# Altium integrated library Actel ProASIC PLUS.IntLib: 242 symbols (part 29 of 36)
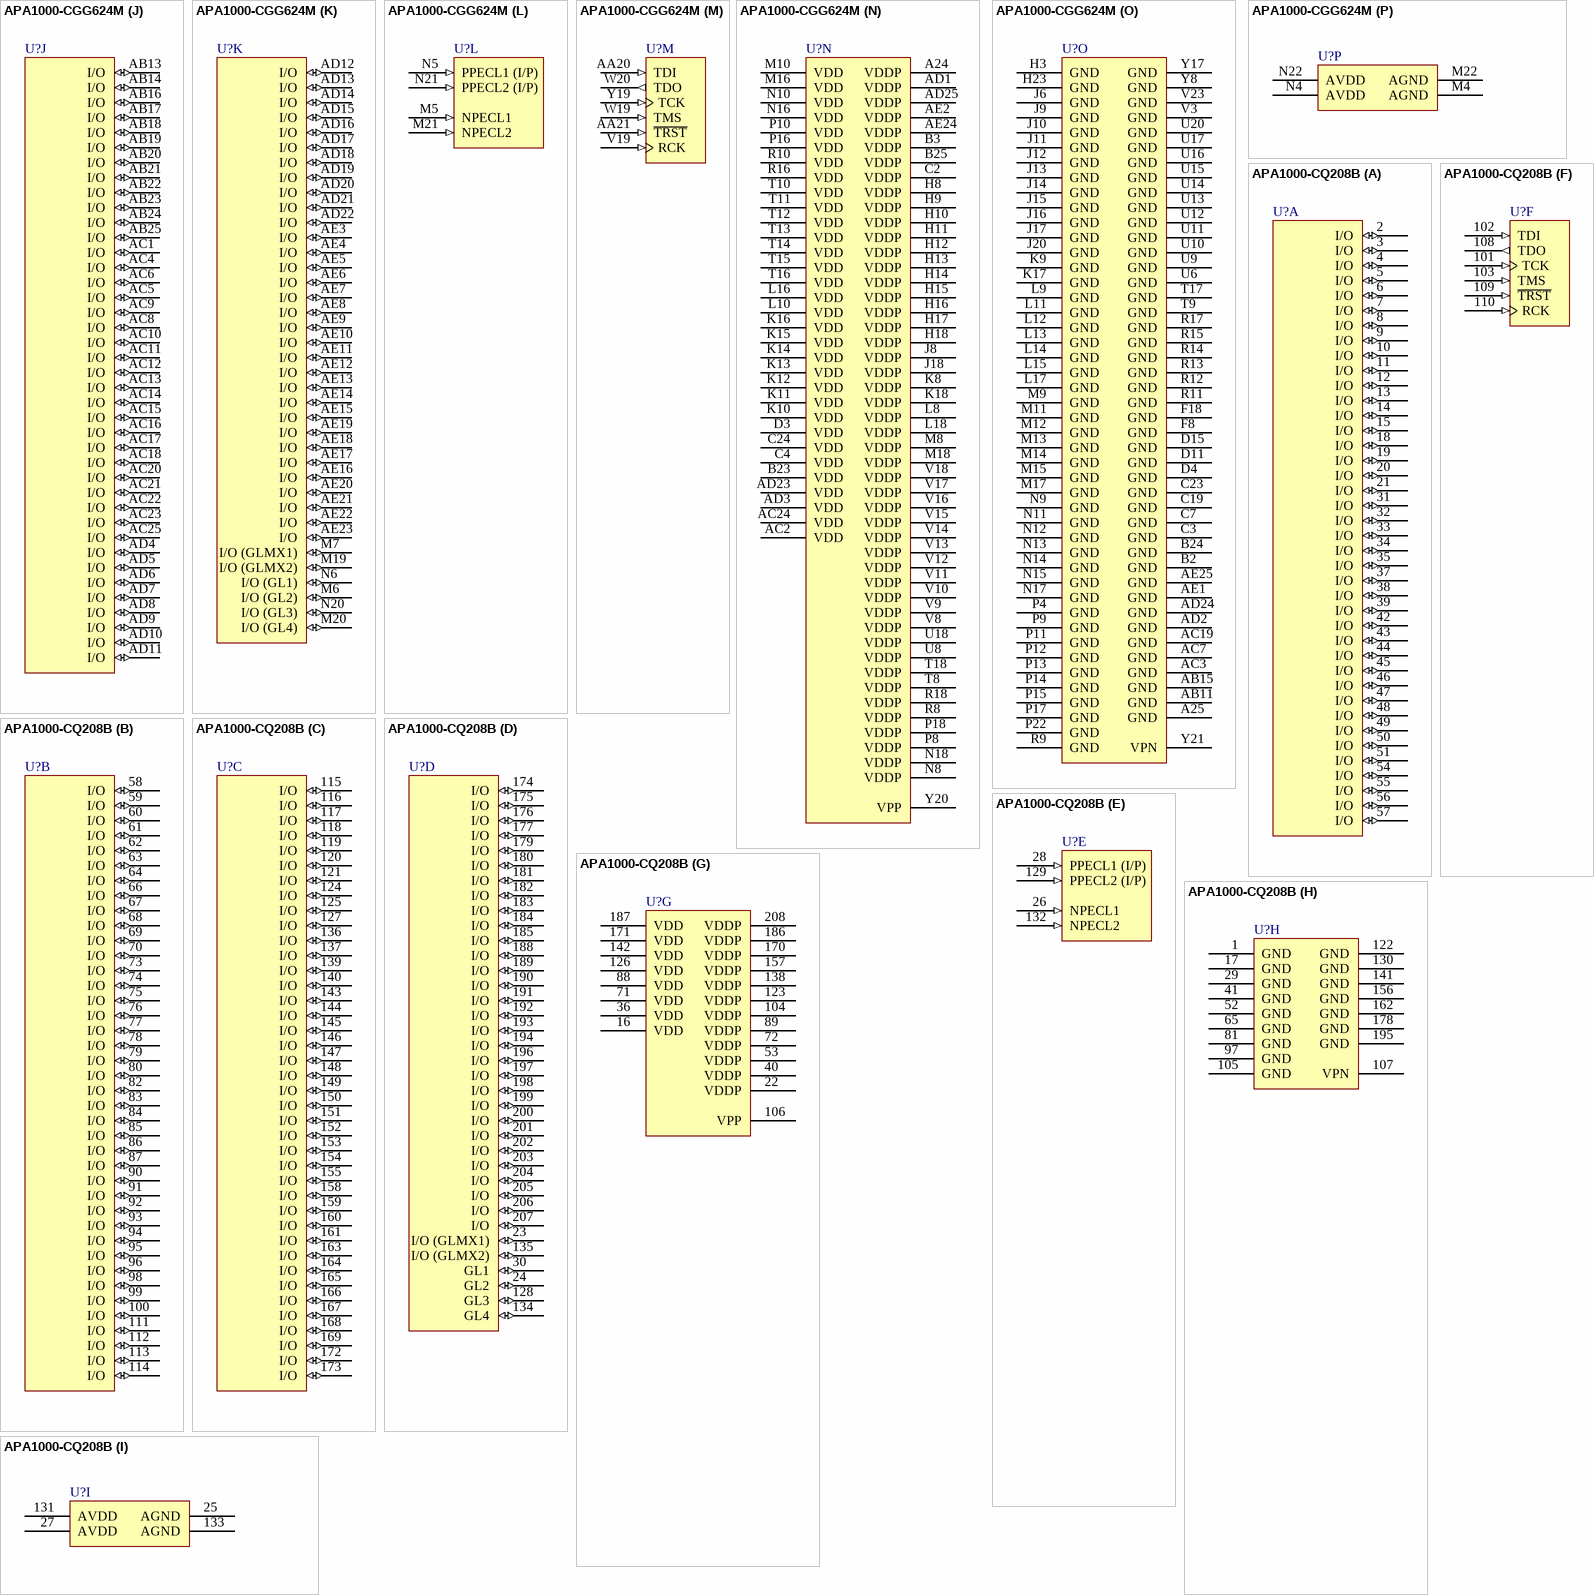
[diagram p225: symbols APA1000-CGG624M to APA1000-CQ208B]

## APA1000-CQ208B
designator U?
ProASICPlus APA1000 Flash FPGA, 158 User IOs, 208-Pin CQFP, Speed Grade Standard, Mil-Std 883 Class B; Published: 2-Mar-2006; LatestRevisionDate: 26-Feb-2010; LatestRevisionNote: Updated to datasheet version 5.9 Jan-2010.; DatasheetVersion: v5.9, Jan-2010; PackageVersion: ver11.2, Nov-2009; PackageReference: CQ208; Publisher: Altium Limited; PackageDescription: 208-Pin Ceramic Quad Flat Pack (CQFP); ComponentLink1Description: ProASIC PLUS Datasheet; ComponentLink1URL: http://www.actel.com/documents/ProASICPLUS_DS.pdf; ComponentLink2Description: Package Mechanical Drawings; ComponentLink2URL: http://www.actel.com/documents/PckgMechDrwngs.pdf; ComponentLink3Description: ProASIC PLUS Documents; ComponentLink3URL: http://www.actel.com/products/proasicplus/docs.aspx; ComponentLink4Description: Actel.com Home; ComponentLink4URL: http://www.actel.com/
footprint CQ208_N (CQFP, 208-Leads, Body 29x29mm; Pitch 0.5mm, Gullwing Leadform, IPC Medium Density)
footprint CQ208_L (CQFP, 208-Leads, Body 29x29mm; Pitch 0.5mm, Gullwing Leadform, IPC High Density)
footprint CQ208_M (CQFP, 208-Leads, Body 29x29mm; Pitch 0.5mm, Gullwing Leadform, IPC Low Density)
part A pins: 2 I/O (io), 3 I/O (io), 4 I/O (io), 5 I/O (io), 6 I/O (io), 7 I/O (io), 8 I/O (io), 9 I/O (io), 10 I/O (io), 11 I/O (io), 12 I/O (io), 13 I/O (io), 14 I/O (io), 15 I/O (io), 18 I/O (io), 19 I/O (io), 20 I/O (io), 21 I/O (io), 31 I/O (io), 32 I/O (io), 33 I/O (io), 34 I/O (io), 35 I/O (io), 37 I/O (io), 38 I/O (io), 39 I/O (io), 42 I/O (io), 43 I/O (io), 44 I/O (io), 45 I/O (io), 46 I/O (io), 47 I/O (io), 48 I/O (io), 49 I/O (io), 50 I/O (io), 51 I/O (io), 54 I/O (io), 55 I/O (io), 56 I/O (io), 57 I/O (io)
part B pins: 58 I/O (io), 59 I/O (io), 60 I/O (io), 61 I/O (io), 62 I/O (io), 63 I/O (io), 64 I/O (io), 66 I/O (io), 67 I/O (io), 68 I/O (io), 69 I/O (io), 70 I/O (io), 73 I/O (io), 74 I/O (io), 75 I/O (io), 76 I/O (io), 77 I/O (io), 78 I/O (io), 79 I/O (io), 80 I/O (io), 82 I/O (io), 83 I/O (io), 84 I/O (io), 85 I/O (io), 86 I/O (io), 87 I/O (io), 90 I/O (io), 91 I/O (io), 92 I/O (io), 93 I/O (io), 94 I/O (io), 95 I/O (io), 96 I/O (io), 98 I/O (io), 99 I/O (io), 100 I/O (io), 111 I/O (io), 112 I/O (io), 113 I/O (io), 114 I/O (io)
part C pins: 115 I/O (io), 116 I/O (io), 117 I/O (io), 118 I/O (io), 119 I/O (io), 120 I/O (io), 121 I/O (io), 124 I/O (io), 125 I/O (io), 127 I/O (io), 136 I/O (io), 137 I/O (io), 139 I/O (io), 140 I/O (io), 143 I/O (io), 144 I/O (io), 145 I/O (io), 146 I/O (io), 147 I/O (io), 148 I/O (io), 149 I/O (io), 150 I/O (io), 151 I/O (io), 152 I/O (io), 153 I/O (io), 154 I/O (io), 155 I/O (io), 158 I/O (io), 159 I/O (io), 160 I/O (io), 161 I/O (io), 163 I/O (io), 164 I/O (io), 165 I/O (io), 166 I/O (io), 167 I/O (io), 168 I/O (io), 169 I/O (io), 172 I/O (io), 173 I/O (io)
part D pins: 23 I/O (GLMX1) (io), 24 GL2 (io), 30 GL1 (io), 128 GL3 (io), 134 GL4 (io), 135 I/O (GLMX2) (io), 174 I/O (io), 175 I/O (io), 176 I/O (io), 177 I/O (io), 179 I/O (io), 180 I/O (io), 181 I/O (io), 182 I/O (io), 183 I/O (io), 184 I/O (io), 185 I/O (io), 188 I/O (io), 189 I/O (io), 190 I/O (io), 191 I/O (io), 192 I/O (io), 193 I/O (io), 194 I/O (io), 196 I/O (io), 197 I/O (io), 198 I/O (io), 199 I/O (io), 200 I/O (io), 201 I/O (io), 202 I/O (io), 203 I/O (io), 204 I/O (io), 205 I/O (io), 206 I/O (io), 207 I/O (io)
part E pins: 26 NPECL1 (in), 28 PPECL1 (I/P) (in), 129 PPECL2 (I/P) (in), 132 NPECL2 (in)
part F pins: 101 TCK (in), 102 TDI (in), 103 TMS (in), 108 TDO (out), 109 ~{TRST} (in), 110 RCK (in)
part G pins: 16 VDD (power), 22 VDDP (power), 36 VDD (power), 40 VDDP (power), 53 VDDP (power), 71 VDD (power), 72 VDDP (power), 88 VDD (power), 89 VDDP (power), 104 VDDP (power), 106 VPP (power), 123 VDDP (power), 126 VDD (power), 138 VDDP (power), 142 VDD (power), 157 VDDP (power), 170 VDDP (power), 171 VDD (power), 186 VDDP (power), 187 VDD (power), 208 VDDP (power)
part H pins: 1 GND (power), 17 GND (power), 29 GND (power), 41 GND (power), 52 GND (power), 65 GND (power), 81 GND (power), 97 GND (power), 105 GND (power), 107 VPN (power), 122 GND (power), 130 GND (power), 141 GND (power), 156 GND (power), 162 GND (power), 178 GND (power), 195 GND (power)
part I pins: 25 AGND (power), 27 AVDD (power), 131 AVDD (power), 133 AGND (power)

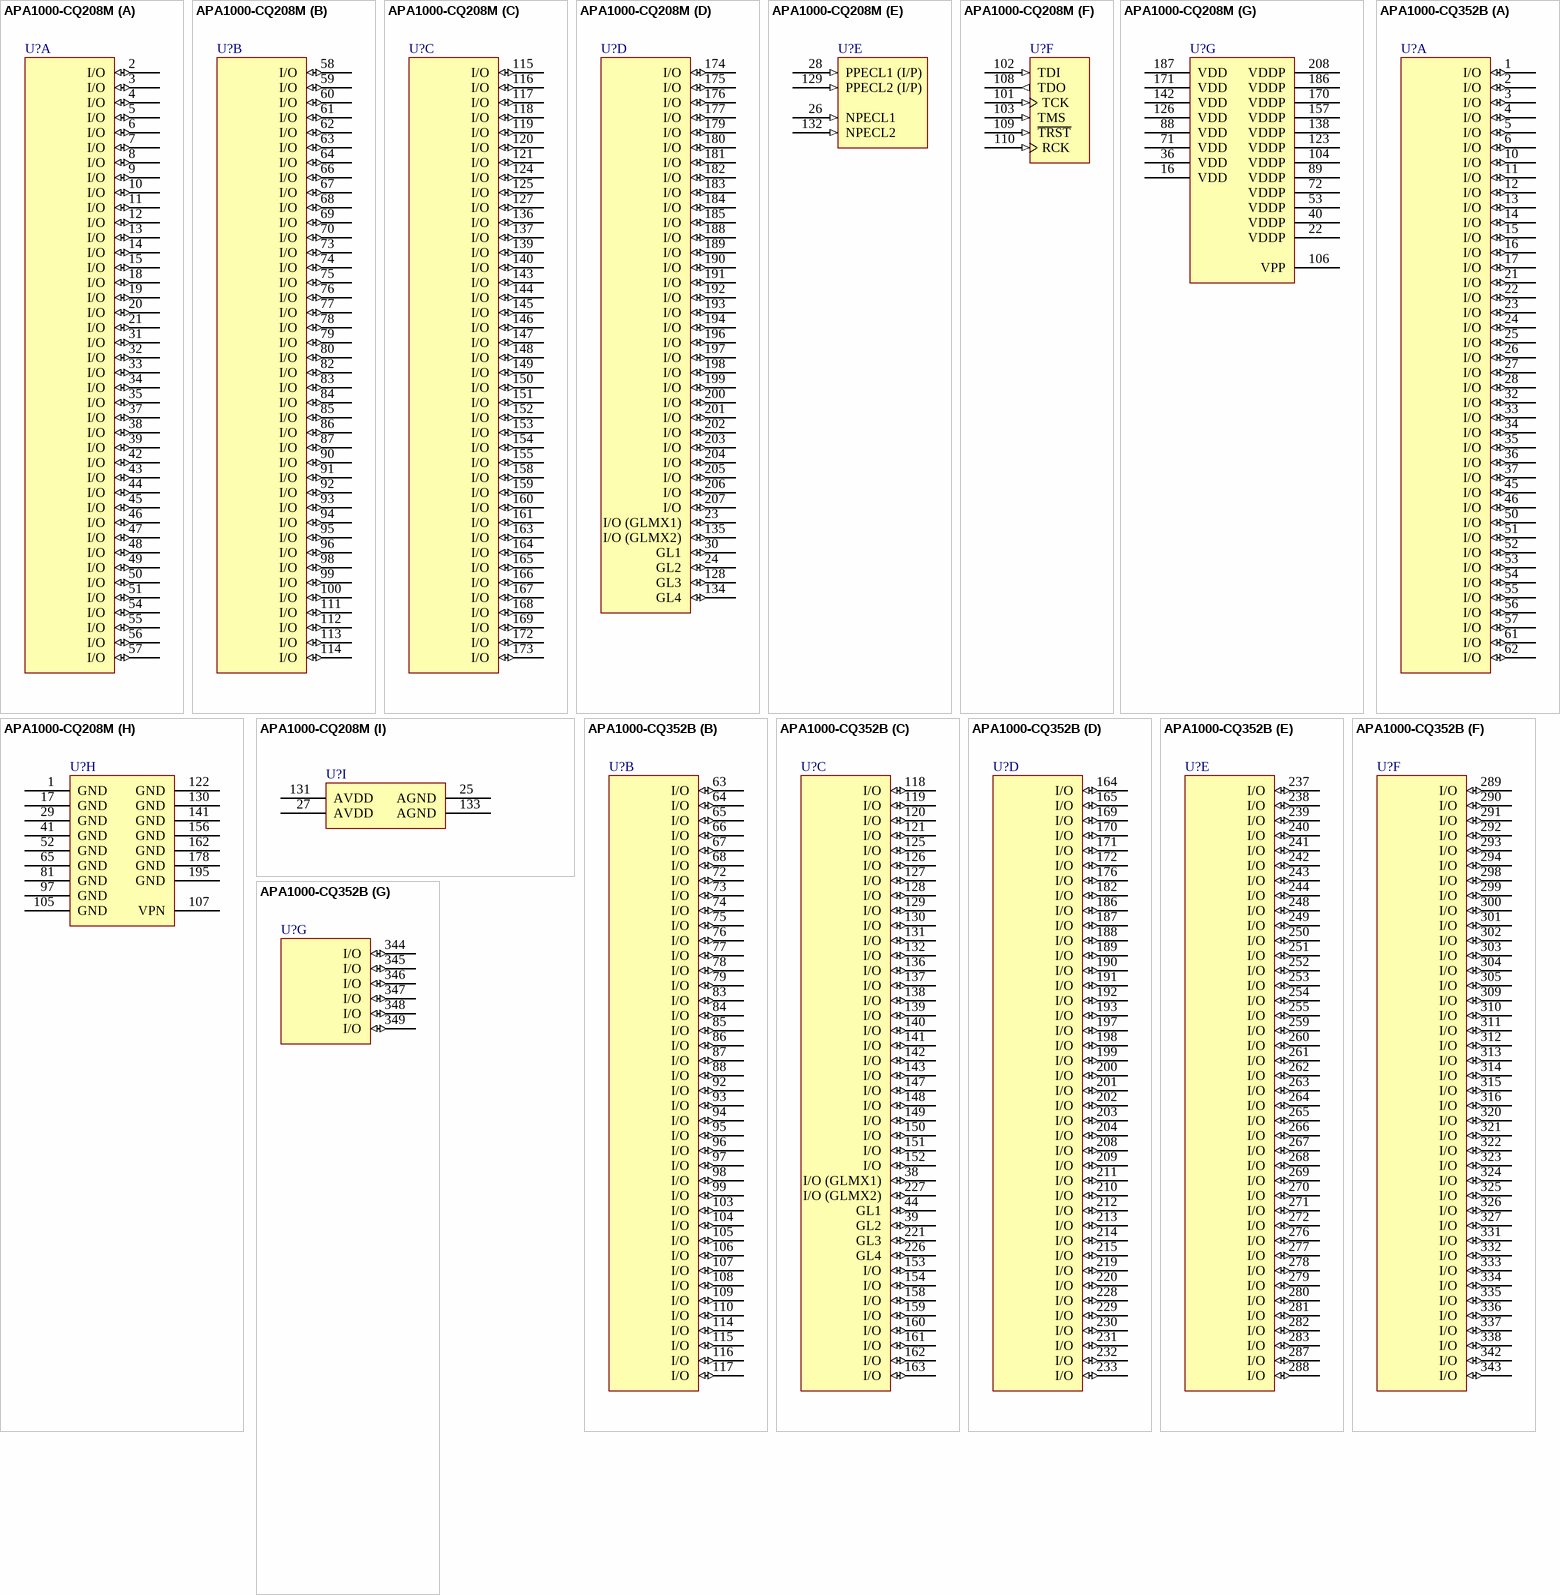
[diagram p159: symbols APA1000-CQ208M to APA1000-CQ352B]

## APA1000-CQ208M
designator U?
ProASICPlus APA1000 Flash FPGA, 158 User IOs, 208-Pin CQFP, Speed Grade Standard, Military Grade; Published: 11-Oct-2004; LatestRevisionDate: 26-Feb-2010; LatestRevisionNote: Updated to datasheet version 5.9 Jan-2010.; DatasheetVersion: v5.9, Jan-2010; PackageVersion: ver11.2, Nov-2009; PackageReference: CQ208; Publisher: Altium Limited; PackageDescription: 208-Pin Ceramic Quad Flat Pack (CQFP); ComponentLink1Description: ProASIC PLUS Datasheet; ComponentLink1URL: http://www.actel.com/documents/ProASICPLUS_DS.pdf; ComponentLink2Description: Package Mechanical Drawings; ComponentLink2URL: http://www.actel.com/documents/PckgMechDrwngs.pdf; ComponentLink3Description: ProASIC PLUS Documents; ComponentLink3URL: http://www.actel.com/products/proasicplus/docs.aspx; ComponentLink4Description: Actel.com Home; ComponentLink4URL: http://www.actel.com/
footprint CQ208_N (CQFP, 208-Leads, Body 29x29mm; Pitch 0.5mm, Gullwing Leadform, IPC Medium Density)
footprint CQ208_L (CQFP, 208-Leads, Body 29x29mm; Pitch 0.5mm, Gullwing Leadform, IPC High Density)
footprint CQ208_M (CQFP, 208-Leads, Body 29x29mm; Pitch 0.5mm, Gullwing Leadform, IPC Low Density)
part A pins: 2 I/O (io), 3 I/O (io), 4 I/O (io), 5 I/O (io), 6 I/O (io), 7 I/O (io), 8 I/O (io), 9 I/O (io), 10 I/O (io), 11 I/O (io), 12 I/O (io), 13 I/O (io), 14 I/O (io), 15 I/O (io), 18 I/O (io), 19 I/O (io), 20 I/O (io), 21 I/O (io), 31 I/O (io), 32 I/O (io), 33 I/O (io), 34 I/O (io), 35 I/O (io), 37 I/O (io), 38 I/O (io), 39 I/O (io), 42 I/O (io), 43 I/O (io), 44 I/O (io), 45 I/O (io), 46 I/O (io), 47 I/O (io), 48 I/O (io), 49 I/O (io), 50 I/O (io), 51 I/O (io), 54 I/O (io), 55 I/O (io), 56 I/O (io), 57 I/O (io)
part B pins: 58 I/O (io), 59 I/O (io), 60 I/O (io), 61 I/O (io), 62 I/O (io), 63 I/O (io), 64 I/O (io), 66 I/O (io), 67 I/O (io), 68 I/O (io), 69 I/O (io), 70 I/O (io), 73 I/O (io), 74 I/O (io), 75 I/O (io), 76 I/O (io), 77 I/O (io), 78 I/O (io), 79 I/O (io), 80 I/O (io), 82 I/O (io), 83 I/O (io), 84 I/O (io), 85 I/O (io), 86 I/O (io), 87 I/O (io), 90 I/O (io), 91 I/O (io), 92 I/O (io), 93 I/O (io), 94 I/O (io), 95 I/O (io), 96 I/O (io), 98 I/O (io), 99 I/O (io), 100 I/O (io), 111 I/O (io), 112 I/O (io), 113 I/O (io), 114 I/O (io)
part C pins: 115 I/O (io), 116 I/O (io), 117 I/O (io), 118 I/O (io), 119 I/O (io), 120 I/O (io), 121 I/O (io), 124 I/O (io), 125 I/O (io), 127 I/O (io), 136 I/O (io), 137 I/O (io), 139 I/O (io), 140 I/O (io), 143 I/O (io), 144 I/O (io), 145 I/O (io), 146 I/O (io), 147 I/O (io), 148 I/O (io), 149 I/O (io), 150 I/O (io), 151 I/O (io), 152 I/O (io), 153 I/O (io), 154 I/O (io), 155 I/O (io), 158 I/O (io), 159 I/O (io), 160 I/O (io), 161 I/O (io), 163 I/O (io), 164 I/O (io), 165 I/O (io), 166 I/O (io), 167 I/O (io), 168 I/O (io), 169 I/O (io), 172 I/O (io), 173 I/O (io)
part D pins: 23 I/O (GLMX1) (io), 24 GL2 (io), 30 GL1 (io), 128 GL3 (io), 134 GL4 (io), 135 I/O (GLMX2) (io), 174 I/O (io), 175 I/O (io), 176 I/O (io), 177 I/O (io), 179 I/O (io), 180 I/O (io), 181 I/O (io), 182 I/O (io), 183 I/O (io), 184 I/O (io), 185 I/O (io), 188 I/O (io), 189 I/O (io), 190 I/O (io), 191 I/O (io), 192 I/O (io), 193 I/O (io), 194 I/O (io), 196 I/O (io), 197 I/O (io), 198 I/O (io), 199 I/O (io), 200 I/O (io), 201 I/O (io), 202 I/O (io), 203 I/O (io), 204 I/O (io), 205 I/O (io), 206 I/O (io), 207 I/O (io)
part E pins: 26 NPECL1 (in), 28 PPECL1 (I/P) (in), 129 PPECL2 (I/P) (in), 132 NPECL2 (in)
part F pins: 101 TCK (in), 102 TDI (in), 103 TMS (in), 108 TDO (out), 109 ~{TRST} (in), 110 RCK (in)
part G pins: 16 VDD (power), 22 VDDP (power), 36 VDD (power), 40 VDDP (power), 53 VDDP (power), 71 VDD (power), 72 VDDP (power), 88 VDD (power), 89 VDDP (power), 104 VDDP (power), 106 VPP (power), 123 VDDP (power), 126 VDD (power), 138 VDDP (power), 142 VDD (power), 157 VDDP (power), 170 VDDP (power), 171 VDD (power), 186 VDDP (power), 187 VDD (power), 208 VDDP (power)
part H pins: 1 GND (power), 17 GND (power), 29 GND (power), 41 GND (power), 52 GND (power), 65 GND (power), 81 GND (power), 97 GND (power), 105 GND (power), 107 VPN (power), 122 GND (power), 130 GND (power), 141 GND (power), 156 GND (power), 162 GND (power), 178 GND (power), 195 GND (power)
part I pins: 25 AGND (power), 27 AVDD (power), 131 AVDD (power), 133 AGND (power)

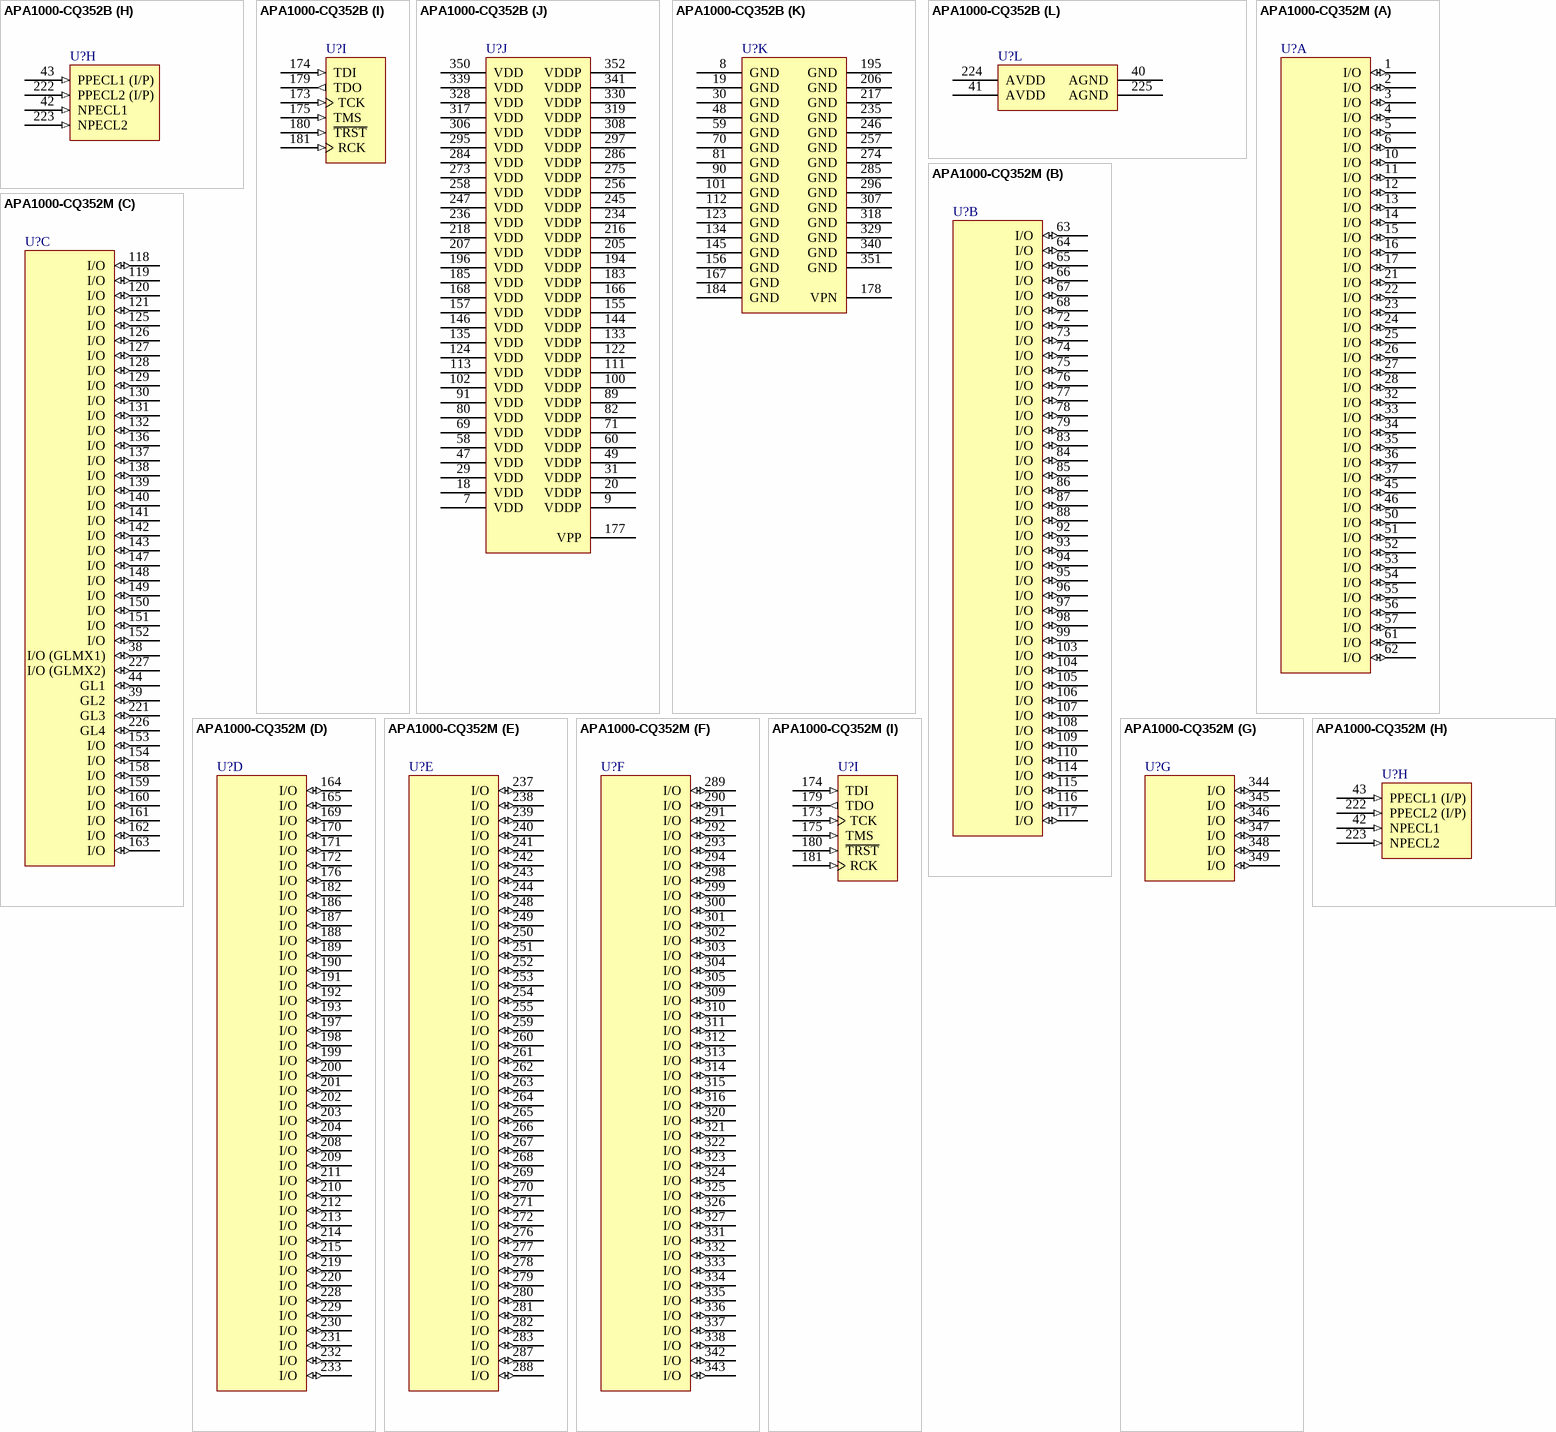
[diagram p160: symbols APA1000-CQ352B to APA1000-CQ352M]

## APA1000-CQ352B
designator U?
ProASICPlus APA1000 Flash FPGA, 248 User IOs, 352-Pin CQFP, Speed Grade Standard, Mil-Std 883 Class B; Published: 2-Mar-2006; LatestRevisionDate: 26-Feb-2010; LatestRevisionNote: Updated to datasheet version 5.9 Jan-2010.; DatasheetVersion: v5.9, Jan-2010; PackageVersion: ver11.2, Nov-2009; PackageReference: CQ352; Publisher: Altium Limited; PackageDescription: 352-Pin Ceramic Quad Flat Pack (CQFP), Cavity Up without Heat Sink; Code_JEDEC: MO-134-AE; ComponentLink1Description: ProASIC PLUS Datasheet; ComponentLink1URL: http://www.actel.com/documents/ProASICPLUS_DS.pdf; ComponentLink2Description: Package Mechanical Drawings; ComponentLink2URL: http://www.actel.com/documents/PckgMechDrwngs.pdf; ComponentLink3Description: ProASIC PLUS Documents; ComponentLink3URL: http://www.actel.com/products/proasicplus/docs.aspx; ComponentLink4Description: Actel.com Home; ComponentLink4URL: http://www.actel.com/
footprint CQ352_N (CQFP, 352-Leads, Body 48x48mm; Pitch 0.5mm, Gullwing Leadform, IPC Medium Density)
footprint CQ352_L (CQFP, 352-Leads, Body 48x48mm; Pitch 0.5mm, Gullwing Leadform, IPC High Density)
footprint CQ352_M (CQFP, 352-Leads, Body 48x48mm; Pitch 0.5mm, Gullwing Leadform, IPC Low Density)
part A pins: 1 I/O (io), 2 I/O (io), 3 I/O (io), 4 I/O (io), 5 I/O (io), 6 I/O (io), 10 I/O (io), 11 I/O (io), 12 I/O (io), 13 I/O (io), 14 I/O (io), 15 I/O (io), 16 I/O (io), 17 I/O (io), 21 I/O (io), 22 I/O (io), 23 I/O (io), 24 I/O (io), 25 I/O (io), 26 I/O (io), 27 I/O (io), 28 I/O (io), 32 I/O (io), 33 I/O (io), 34 I/O (io), 35 I/O (io), 36 I/O (io), 37 I/O (io), 45 I/O (io), 46 I/O (io), 50 I/O (io), 51 I/O (io), 52 I/O (io), 53 I/O (io), 54 I/O (io), 55 I/O (io), 56 I/O (io), 57 I/O (io), 61 I/O (io), 62 I/O (io)
part B pins: 63 I/O (io), 64 I/O (io), 65 I/O (io), 66 I/O (io), 67 I/O (io), 68 I/O (io), 72 I/O (io), 73 I/O (io), 74 I/O (io), 75 I/O (io), 76 I/O (io), 77 I/O (io), 78 I/O (io), 79 I/O (io), 83 I/O (io), 84 I/O (io), 85 I/O (io), 86 I/O (io), 87 I/O (io), 88 I/O (io), 92 I/O (io), 93 I/O (io), 94 I/O (io), 95 I/O (io), 96 I/O (io), 97 I/O (io), 98 I/O (io), 99 I/O (io), 103 I/O (io), 104 I/O (io), 105 I/O (io), 106 I/O (io), 107 I/O (io), 108 I/O (io), 109 I/O (io), 110 I/O (io), 114 I/O (io), 115 I/O (io), 116 I/O (io), 117 I/O (io)
part C pins: 38 I/O (GLMX1) (io), 39 GL2 (io), 44 GL1 (io), 118 I/O (io), 119 I/O (io), 120 I/O (io), 121 I/O (io), 125 I/O (io), 126 I/O (io), 127 I/O (io), 128 I/O (io), 129 I/O (io), 130 I/O (io), 131 I/O (io), 132 I/O (io), 136 I/O (io), 137 I/O (io), 138 I/O (io), 139 I/O (io), 140 I/O (io), 141 I/O (io), 142 I/O (io), 143 I/O (io), 147 I/O (io), 148 I/O (io), 149 I/O (io), 150 I/O (io), 151 I/O (io), 152 I/O (io), 153 I/O (io), 154 I/O (io), 158 I/O (io), 159 I/O (io), 160 I/O (io), 161 I/O (io), 162 I/O (io), 163 I/O (io), 221 GL3 (io), 226 GL4 (io), 227 I/O (GLMX2) (io)
part D pins: 164 I/O (io), 165 I/O (io), 169 I/O (io), 170 I/O (io), 171 I/O (io), 172 I/O (io), 176 I/O (io), 182 I/O (io), 186 I/O (io), 187 I/O (io), 188 I/O (io), 189 I/O (io), 190 I/O (io), 191 I/O (io), 192 I/O (io), 193 I/O (io), 197 I/O (io), 198 I/O (io), 199 I/O (io), 200 I/O (io), 201 I/O (io), 202 I/O (io), 203 I/O (io), 204 I/O (io), 208 I/O (io), 209 I/O (io), 210 I/O (io), 211 I/O (io), 212 I/O (io), 213 I/O (io), 214 I/O (io), 215 I/O (io), 219 I/O (io), 220 I/O (io), 228 I/O (io), 229 I/O (io), 230 I/O (io), 231 I/O (io), 232 I/O (io), 233 I/O (io)
part E pins: 237 I/O (io), 238 I/O (io), 239 I/O (io), 240 I/O (io), 241 I/O (io), 242 I/O (io), 243 I/O (io), 244 I/O (io), 248 I/O (io), 249 I/O (io), 250 I/O (io), 251 I/O (io), 252 I/O (io), 253 I/O (io), 254 I/O (io), 255 I/O (io), 259 I/O (io), 260 I/O (io), 261 I/O (io), 262 I/O (io), 263 I/O (io), 264 I/O (io), 265 I/O (io), 266 I/O (io), 267 I/O (io), 268 I/O (io), 269 I/O (io), 270 I/O (io), 271 I/O (io), 272 I/O (io), 276 I/O (io), 277 I/O (io), 278 I/O (io), 279 I/O (io), 280 I/O (io), 281 I/O (io), 282 I/O (io), 283 I/O (io), 287 I/O (io), 288 I/O (io)
part F pins: 289 I/O (io), 290 I/O (io), 291 I/O (io), 292 I/O (io), 293 I/O (io), 294 I/O (io), 298 I/O (io), 299 I/O (io), 300 I/O (io), 301 I/O (io), 302 I/O (io), 303 I/O (io), 304 I/O (io), 305 I/O (io), 309 I/O (io), 310 I/O (io), 311 I/O (io), 312 I/O (io), 313 I/O (io), 314 I/O (io), 315 I/O (io), 316 I/O (io), 320 I/O (io), 321 I/O (io), 322 I/O (io), 323 I/O (io), 324 I/O (io), 325 I/O (io), 326 I/O (io), 327 I/O (io), 331 I/O (io), 332 I/O (io), 333 I/O (io), 334 I/O (io), 335 I/O (io), 336 I/O (io), 337 I/O (io), 338 I/O (io), 342 I/O (io), 343 I/O (io)
part G pins: 344 I/O (io), 345 I/O (io), 346 I/O (io), 347 I/O (io), 348 I/O (io), 349 I/O (io)
part H pins: 42 NPECL1 (in), 43 PPECL1 (I/P) (in), 222 PPECL2 (I/P) (in), 223 NPECL2 (in)
part I pins: 173 TCK (in), 174 TDI (in), 175 TMS (in), 179 TDO (out), 180 ~{TRST} (in), 181 RCK (in)
part J pins: 7 VDD (power), 9 VDDP (power), 18 VDD (power), 20 VDDP (power), 29 VDD (power), 31 VDDP (power), 47 VDD (power), 49 VDDP (power), 58 VDD (power), 60 VDDP (power), 69 VDD (power), 71 VDDP (power), 80 VDD (power), 82 VDDP (power), 89 VDDP (power), 91 VDD (power), 100 VDDP (power), 102 VDD (power), 111 VDDP (power), 113 VDD (power), 122 VDDP (power), 124 VDD (power), 133 VDDP (power), 135 VDD (power), 144 VDDP (power), 146 VDD (power), 155 VDDP (power), 157 VDD (power), 166 VDDP (power), 168 VDD (power), 177 VPP (power), 183 VDDP (power), 185 VDD (power), 194 VDDP (power), 196 VDD (power), 205 VDDP (power), 207 VDD (power), 216 VDDP (power), 218 VDD (power), 234 VDDP (power), 236 VDD (power), 245 VDDP (power), 247 VDD (power), 256 VDDP (power), 258 VDD (power), 273 VDD (power), 275 VDDP (power), 284 VDD (power), 286 VDDP (power), 295 VDD (power), 297 VDDP (power), 306 VDD (power), 308 VDDP (power), 317 VDD (power), 319 VDDP (power), 328 VDD (power), 330 VDDP (power), 339 VDD (power), 341 VDDP (power), 350 VDD (power), 352 VDDP (power)
part K pins: 8 GND (power), 19 GND (power), 30 GND (power), 48 GND (power), 59 GND (power), 70 GND (power), 81 GND (power), 90 GND (power), 101 GND (power), 112 GND (power), 123 GND (power), 134 GND (power), 145 GND (power), 156 GND (power), 167 GND (power), 178 VPN (power), 184 GND (power), 195 GND (power), 206 GND (power), 217 GND (power), 235 GND (power), 246 GND (power), 257 GND (power), 274 GND (power), 285 GND (power), 296 GND (power), 307 GND (power), 318 GND (power), 329 GND (power), 340 GND (power), 351 GND (power)
part L pins: 40 AGND (power), 41 AVDD (power), 224 AVDD (power), 225 AGND (power)

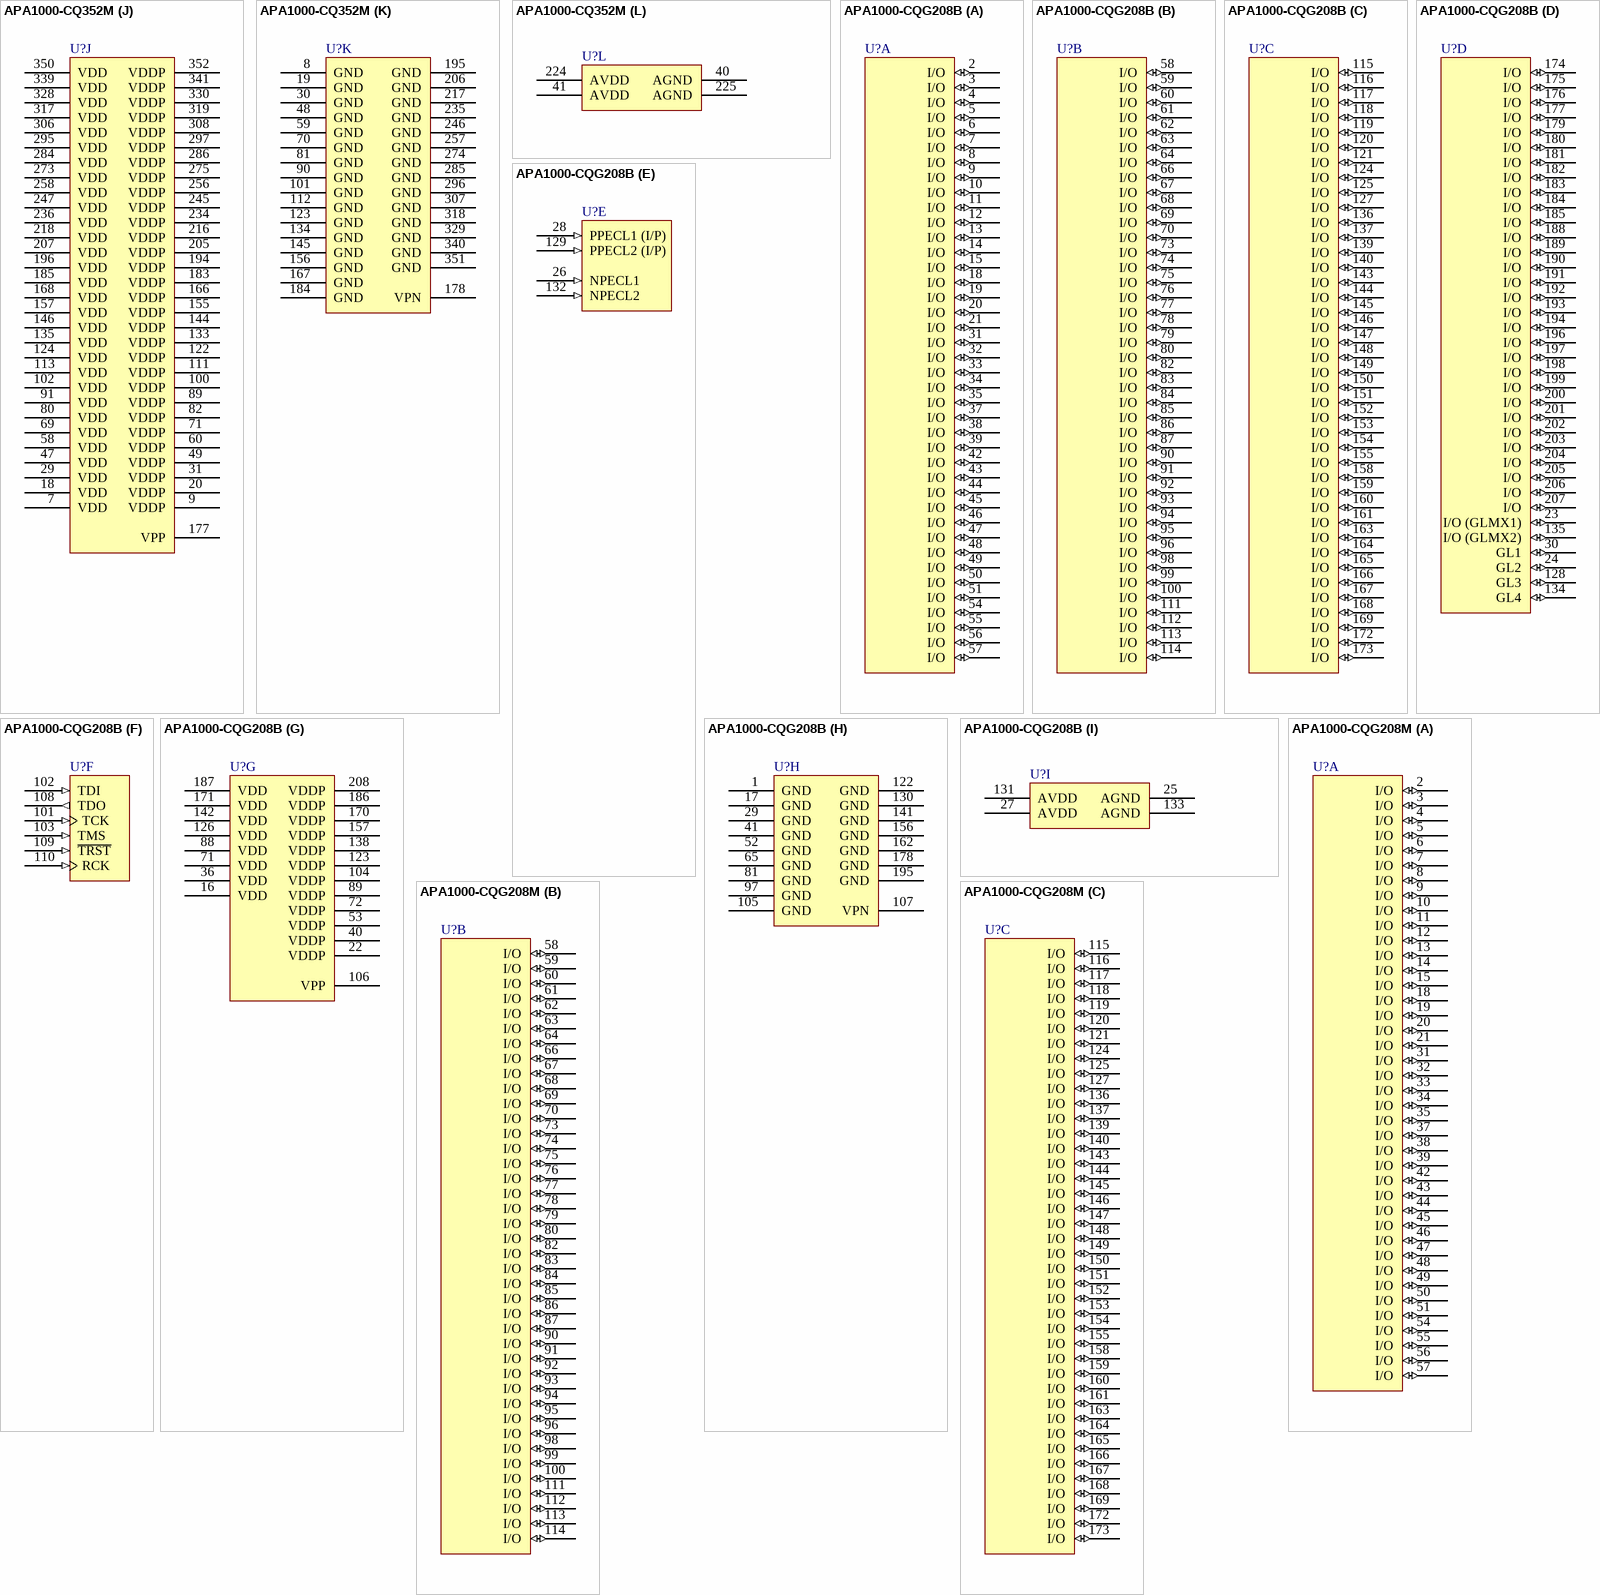
[diagram p161: symbols APA1000-CQ352M to APA1000-CQG208M]

## APA1000-CQ352M
designator U?
ProASICPlus APA1000 Flash FPGA, 248 User IOs, 352-Pin CQFP, Speed Grade Standard, Military Grade; Published: 11-Oct-2004; LatestRevisionDate: 26-Feb-2010; LatestRevisionNote: Updated to datasheet version 5.9 Jan-2010.; DatasheetVersion: v5.9, Jan-2010; PackageVersion: ver11.2, Nov-2009; PackageReference: CQ352; Publisher: Altium Limited; PackageDescription: 352-Pin Ceramic Quad Flat Pack (CQFP), Cavity Up without Heat Sink; Code_JEDEC: MO-134-AE; ComponentLink1Description: ProASIC PLUS Datasheet; ComponentLink1URL: http://www.actel.com/documents/ProASICPLUS_DS.pdf; ComponentLink2Description: Package Mechanical Drawings; ComponentLink2URL: http://www.actel.com/documents/PckgMechDrwngs.pdf; ComponentLink3Description: ProASIC PLUS Documents; ComponentLink3URL: http://www.actel.com/products/proasicplus/docs.aspx; ComponentLink4Description: Actel.com Home; ComponentLink4URL: http://www.actel.com/
footprint CQ352_N (CQFP, 352-Leads, Body 48x48mm; Pitch 0.5mm, Gullwing Leadform, IPC Medium Density)
footprint CQ352_L (CQFP, 352-Leads, Body 48x48mm; Pitch 0.5mm, Gullwing Leadform, IPC High Density)
footprint CQ352_M (CQFP, 352-Leads, Body 48x48mm; Pitch 0.5mm, Gullwing Leadform, IPC Low Density)
part A pins: 1 I/O (io), 2 I/O (io), 3 I/O (io), 4 I/O (io), 5 I/O (io), 6 I/O (io), 10 I/O (io), 11 I/O (io), 12 I/O (io), 13 I/O (io), 14 I/O (io), 15 I/O (io), 16 I/O (io), 17 I/O (io), 21 I/O (io), 22 I/O (io), 23 I/O (io), 24 I/O (io), 25 I/O (io), 26 I/O (io), 27 I/O (io), 28 I/O (io), 32 I/O (io), 33 I/O (io), 34 I/O (io), 35 I/O (io), 36 I/O (io), 37 I/O (io), 45 I/O (io), 46 I/O (io), 50 I/O (io), 51 I/O (io), 52 I/O (io), 53 I/O (io), 54 I/O (io), 55 I/O (io), 56 I/O (io), 57 I/O (io), 61 I/O (io), 62 I/O (io)
part B pins: 63 I/O (io), 64 I/O (io), 65 I/O (io), 66 I/O (io), 67 I/O (io), 68 I/O (io), 72 I/O (io), 73 I/O (io), 74 I/O (io), 75 I/O (io), 76 I/O (io), 77 I/O (io), 78 I/O (io), 79 I/O (io), 83 I/O (io), 84 I/O (io), 85 I/O (io), 86 I/O (io), 87 I/O (io), 88 I/O (io), 92 I/O (io), 93 I/O (io), 94 I/O (io), 95 I/O (io), 96 I/O (io), 97 I/O (io), 98 I/O (io), 99 I/O (io), 103 I/O (io), 104 I/O (io), 105 I/O (io), 106 I/O (io), 107 I/O (io), 108 I/O (io), 109 I/O (io), 110 I/O (io), 114 I/O (io), 115 I/O (io), 116 I/O (io), 117 I/O (io)
part C pins: 38 I/O (GLMX1) (io), 39 GL2 (io), 44 GL1 (io), 118 I/O (io), 119 I/O (io), 120 I/O (io), 121 I/O (io), 125 I/O (io), 126 I/O (io), 127 I/O (io), 128 I/O (io), 129 I/O (io), 130 I/O (io), 131 I/O (io), 132 I/O (io), 136 I/O (io), 137 I/O (io), 138 I/O (io), 139 I/O (io), 140 I/O (io), 141 I/O (io), 142 I/O (io), 143 I/O (io), 147 I/O (io), 148 I/O (io), 149 I/O (io), 150 I/O (io), 151 I/O (io), 152 I/O (io), 153 I/O (io), 154 I/O (io), 158 I/O (io), 159 I/O (io), 160 I/O (io), 161 I/O (io), 162 I/O (io), 163 I/O (io), 221 GL3 (io), 226 GL4 (io), 227 I/O (GLMX2) (io)
part D pins: 164 I/O (io), 165 I/O (io), 169 I/O (io), 170 I/O (io), 171 I/O (io), 172 I/O (io), 176 I/O (io), 182 I/O (io), 186 I/O (io), 187 I/O (io), 188 I/O (io), 189 I/O (io), 190 I/O (io), 191 I/O (io), 192 I/O (io), 193 I/O (io), 197 I/O (io), 198 I/O (io), 199 I/O (io), 200 I/O (io), 201 I/O (io), 202 I/O (io), 203 I/O (io), 204 I/O (io), 208 I/O (io), 209 I/O (io), 210 I/O (io), 211 I/O (io), 212 I/O (io), 213 I/O (io), 214 I/O (io), 215 I/O (io), 219 I/O (io), 220 I/O (io), 228 I/O (io), 229 I/O (io), 230 I/O (io), 231 I/O (io), 232 I/O (io), 233 I/O (io)
part E pins: 237 I/O (io), 238 I/O (io), 239 I/O (io), 240 I/O (io), 241 I/O (io), 242 I/O (io), 243 I/O (io), 244 I/O (io), 248 I/O (io), 249 I/O (io), 250 I/O (io), 251 I/O (io), 252 I/O (io), 253 I/O (io), 254 I/O (io), 255 I/O (io), 259 I/O (io), 260 I/O (io), 261 I/O (io), 262 I/O (io), 263 I/O (io), 264 I/O (io), 265 I/O (io), 266 I/O (io), 267 I/O (io), 268 I/O (io), 269 I/O (io), 270 I/O (io), 271 I/O (io), 272 I/O (io), 276 I/O (io), 277 I/O (io), 278 I/O (io), 279 I/O (io), 280 I/O (io), 281 I/O (io), 282 I/O (io), 283 I/O (io), 287 I/O (io), 288 I/O (io)
part F pins: 289 I/O (io), 290 I/O (io), 291 I/O (io), 292 I/O (io), 293 I/O (io), 294 I/O (io), 298 I/O (io), 299 I/O (io), 300 I/O (io), 301 I/O (io), 302 I/O (io), 303 I/O (io), 304 I/O (io), 305 I/O (io), 309 I/O (io), 310 I/O (io), 311 I/O (io), 312 I/O (io), 313 I/O (io), 314 I/O (io), 315 I/O (io), 316 I/O (io), 320 I/O (io), 321 I/O (io), 322 I/O (io), 323 I/O (io), 324 I/O (io), 325 I/O (io), 326 I/O (io), 327 I/O (io), 331 I/O (io), 332 I/O (io), 333 I/O (io), 334 I/O (io), 335 I/O (io), 336 I/O (io), 337 I/O (io), 338 I/O (io), 342 I/O (io), 343 I/O (io)
part G pins: 344 I/O (io), 345 I/O (io), 346 I/O (io), 347 I/O (io), 348 I/O (io), 349 I/O (io)
part H pins: 42 NPECL1 (in), 43 PPECL1 (I/P) (in), 222 PPECL2 (I/P) (in), 223 NPECL2 (in)
part I pins: 173 TCK (in), 174 TDI (in), 175 TMS (in), 179 TDO (out), 180 ~{TRST} (in), 181 RCK (in)
part J pins: 7 VDD (power), 9 VDDP (power), 18 VDD (power), 20 VDDP (power), 29 VDD (power), 31 VDDP (power), 47 VDD (power), 49 VDDP (power), 58 VDD (power), 60 VDDP (power), 69 VDD (power), 71 VDDP (power), 80 VDD (power), 82 VDDP (power), 89 VDDP (power), 91 VDD (power), 100 VDDP (power), 102 VDD (power), 111 VDDP (power), 113 VDD (power), 122 VDDP (power), 124 VDD (power), 133 VDDP (power), 135 VDD (power), 144 VDDP (power), 146 VDD (power), 155 VDDP (power), 157 VDD (power), 166 VDDP (power), 168 VDD (power), 177 VPP (power), 183 VDDP (power), 185 VDD (power), 194 VDDP (power), 196 VDD (power), 205 VDDP (power), 207 VDD (power), 216 VDDP (power), 218 VDD (power), 234 VDDP (power), 236 VDD (power), 245 VDDP (power), 247 VDD (power), 256 VDDP (power), 258 VDD (power), 273 VDD (power), 275 VDDP (power), 284 VDD (power), 286 VDDP (power), 295 VDD (power), 297 VDDP (power), 306 VDD (power), 308 VDDP (power), 317 VDD (power), 319 VDDP (power), 328 VDD (power), 330 VDDP (power), 339 VDD (power), 341 VDDP (power), 350 VDD (power), 352 VDDP (power)
part K pins: 8 GND (power), 19 GND (power), 30 GND (power), 48 GND (power), 59 GND (power), 70 GND (power), 81 GND (power), 90 GND (power), 101 GND (power), 112 GND (power), 123 GND (power), 134 GND (power), 145 GND (power), 156 GND (power), 167 GND (power), 178 VPN (power), 184 GND (power), 195 GND (power), 206 GND (power), 217 GND (power), 235 GND (power), 246 GND (power), 257 GND (power), 274 GND (power), 285 GND (power), 296 GND (power), 307 GND (power), 318 GND (power), 329 GND (power), 340 GND (power), 351 GND (power)
part L pins: 40 AGND (power), 41 AVDD (power), 224 AVDD (power), 225 AGND (power)

## APA1000-CQG208B
designator U?
ProASICPlus APA1000 Flash FPGA, 158 User IOs, 208-Pin CQFP, Speed Grade Standard, Mil-Std 883 Class B, Pb-Free; Published: 2-Mar-2006; LatestRevisionDate: 26-Feb-2010; LatestRevisionNote: Updated to datasheet version 5.9 Jan-2010.; DatasheetVersion: v5.9, Jan-2010; PackageVersion: ver11.2, Nov-2009; PackageReference: CQ208; Publisher: Altium Limited; PackageDescription: 208-Pin Ceramic Quad Flat Pack (CQFP); ComponentLink1Description: ProASIC PLUS Datasheet; ComponentLink1URL: http://www.actel.com/documents/ProASICPLUS_DS.pdf; ComponentLink2Description: Package Mechanical Drawings; ComponentLink2URL: http://www.actel.com/documents/PckgMechDrwngs.pdf; ComponentLink3Description: ProASIC PLUS Documents; ComponentLink3URL: http://www.actel.com/products/proasicplus/docs.aspx; ComponentLink4Description: Actel.com Home; ComponentLink4URL: http://www.actel.com/
footprint CQ208_N (CQFP, 208-Leads, Body 29x29mm; Pitch 0.5mm, Gullwing Leadform, IPC Medium Density)
footprint CQ208_L (CQFP, 208-Leads, Body 29x29mm; Pitch 0.5mm, Gullwing Leadform, IPC High Density)
footprint CQ208_M (CQFP, 208-Leads, Body 29x29mm; Pitch 0.5mm, Gullwing Leadform, IPC Low Density)
part A pins: 2 I/O (io), 3 I/O (io), 4 I/O (io), 5 I/O (io), 6 I/O (io), 7 I/O (io), 8 I/O (io), 9 I/O (io), 10 I/O (io), 11 I/O (io), 12 I/O (io), 13 I/O (io), 14 I/O (io), 15 I/O (io), 18 I/O (io), 19 I/O (io), 20 I/O (io), 21 I/O (io), 31 I/O (io), 32 I/O (io), 33 I/O (io), 34 I/O (io), 35 I/O (io), 37 I/O (io), 38 I/O (io), 39 I/O (io), 42 I/O (io), 43 I/O (io), 44 I/O (io), 45 I/O (io), 46 I/O (io), 47 I/O (io), 48 I/O (io), 49 I/O (io), 50 I/O (io), 51 I/O (io), 54 I/O (io), 55 I/O (io), 56 I/O (io), 57 I/O (io)
part B pins: 58 I/O (io), 59 I/O (io), 60 I/O (io), 61 I/O (io), 62 I/O (io), 63 I/O (io), 64 I/O (io), 66 I/O (io), 67 I/O (io), 68 I/O (io), 69 I/O (io), 70 I/O (io), 73 I/O (io), 74 I/O (io), 75 I/O (io), 76 I/O (io), 77 I/O (io), 78 I/O (io), 79 I/O (io), 80 I/O (io), 82 I/O (io), 83 I/O (io), 84 I/O (io), 85 I/O (io), 86 I/O (io), 87 I/O (io), 90 I/O (io), 91 I/O (io), 92 I/O (io), 93 I/O (io), 94 I/O (io), 95 I/O (io), 96 I/O (io), 98 I/O (io), 99 I/O (io), 100 I/O (io), 111 I/O (io), 112 I/O (io), 113 I/O (io), 114 I/O (io)
part C pins: 115 I/O (io), 116 I/O (io), 117 I/O (io), 118 I/O (io), 119 I/O (io), 120 I/O (io), 121 I/O (io), 124 I/O (io), 125 I/O (io), 127 I/O (io), 136 I/O (io), 137 I/O (io), 139 I/O (io), 140 I/O (io), 143 I/O (io), 144 I/O (io), 145 I/O (io), 146 I/O (io), 147 I/O (io), 148 I/O (io), 149 I/O (io), 150 I/O (io), 151 I/O (io), 152 I/O (io), 153 I/O (io), 154 I/O (io), 155 I/O (io), 158 I/O (io), 159 I/O (io), 160 I/O (io), 161 I/O (io), 163 I/O (io), 164 I/O (io), 165 I/O (io), 166 I/O (io), 167 I/O (io), 168 I/O (io), 169 I/O (io), 172 I/O (io), 173 I/O (io)
part D pins: 23 I/O (GLMX1) (io), 24 GL2 (io), 30 GL1 (io), 128 GL3 (io), 134 GL4 (io), 135 I/O (GLMX2) (io), 174 I/O (io), 175 I/O (io), 176 I/O (io), 177 I/O (io), 179 I/O (io), 180 I/O (io), 181 I/O (io), 182 I/O (io), 183 I/O (io), 184 I/O (io), 185 I/O (io), 188 I/O (io), 189 I/O (io), 190 I/O (io), 191 I/O (io), 192 I/O (io), 193 I/O (io), 194 I/O (io), 196 I/O (io), 197 I/O (io), 198 I/O (io), 199 I/O (io), 200 I/O (io), 201 I/O (io), 202 I/O (io), 203 I/O (io), 204 I/O (io), 205 I/O (io), 206 I/O (io), 207 I/O (io)
part E pins: 26 NPECL1 (in), 28 PPECL1 (I/P) (in), 129 PPECL2 (I/P) (in), 132 NPECL2 (in)
part F pins: 101 TCK (in), 102 TDI (in), 103 TMS (in), 108 TDO (out), 109 ~{TRST} (in), 110 RCK (in)
part G pins: 16 VDD (power), 22 VDDP (power), 36 VDD (power), 40 VDDP (power), 53 VDDP (power), 71 VDD (power), 72 VDDP (power), 88 VDD (power), 89 VDDP (power), 104 VDDP (power), 106 VPP (power), 123 VDDP (power), 126 VDD (power), 138 VDDP (power), 142 VDD (power), 157 VDDP (power), 170 VDDP (power), 171 VDD (power), 186 VDDP (power), 187 VDD (power), 208 VDDP (power)
part H pins: 1 GND (power), 17 GND (power), 29 GND (power), 41 GND (power), 52 GND (power), 65 GND (power), 81 GND (power), 97 GND (power), 105 GND (power), 107 VPN (power), 122 GND (power), 130 GND (power), 141 GND (power), 156 GND (power), 162 GND (power), 178 GND (power), 195 GND (power)
part I pins: 25 AGND (power), 27 AVDD (power), 131 AVDD (power), 133 AGND (power)

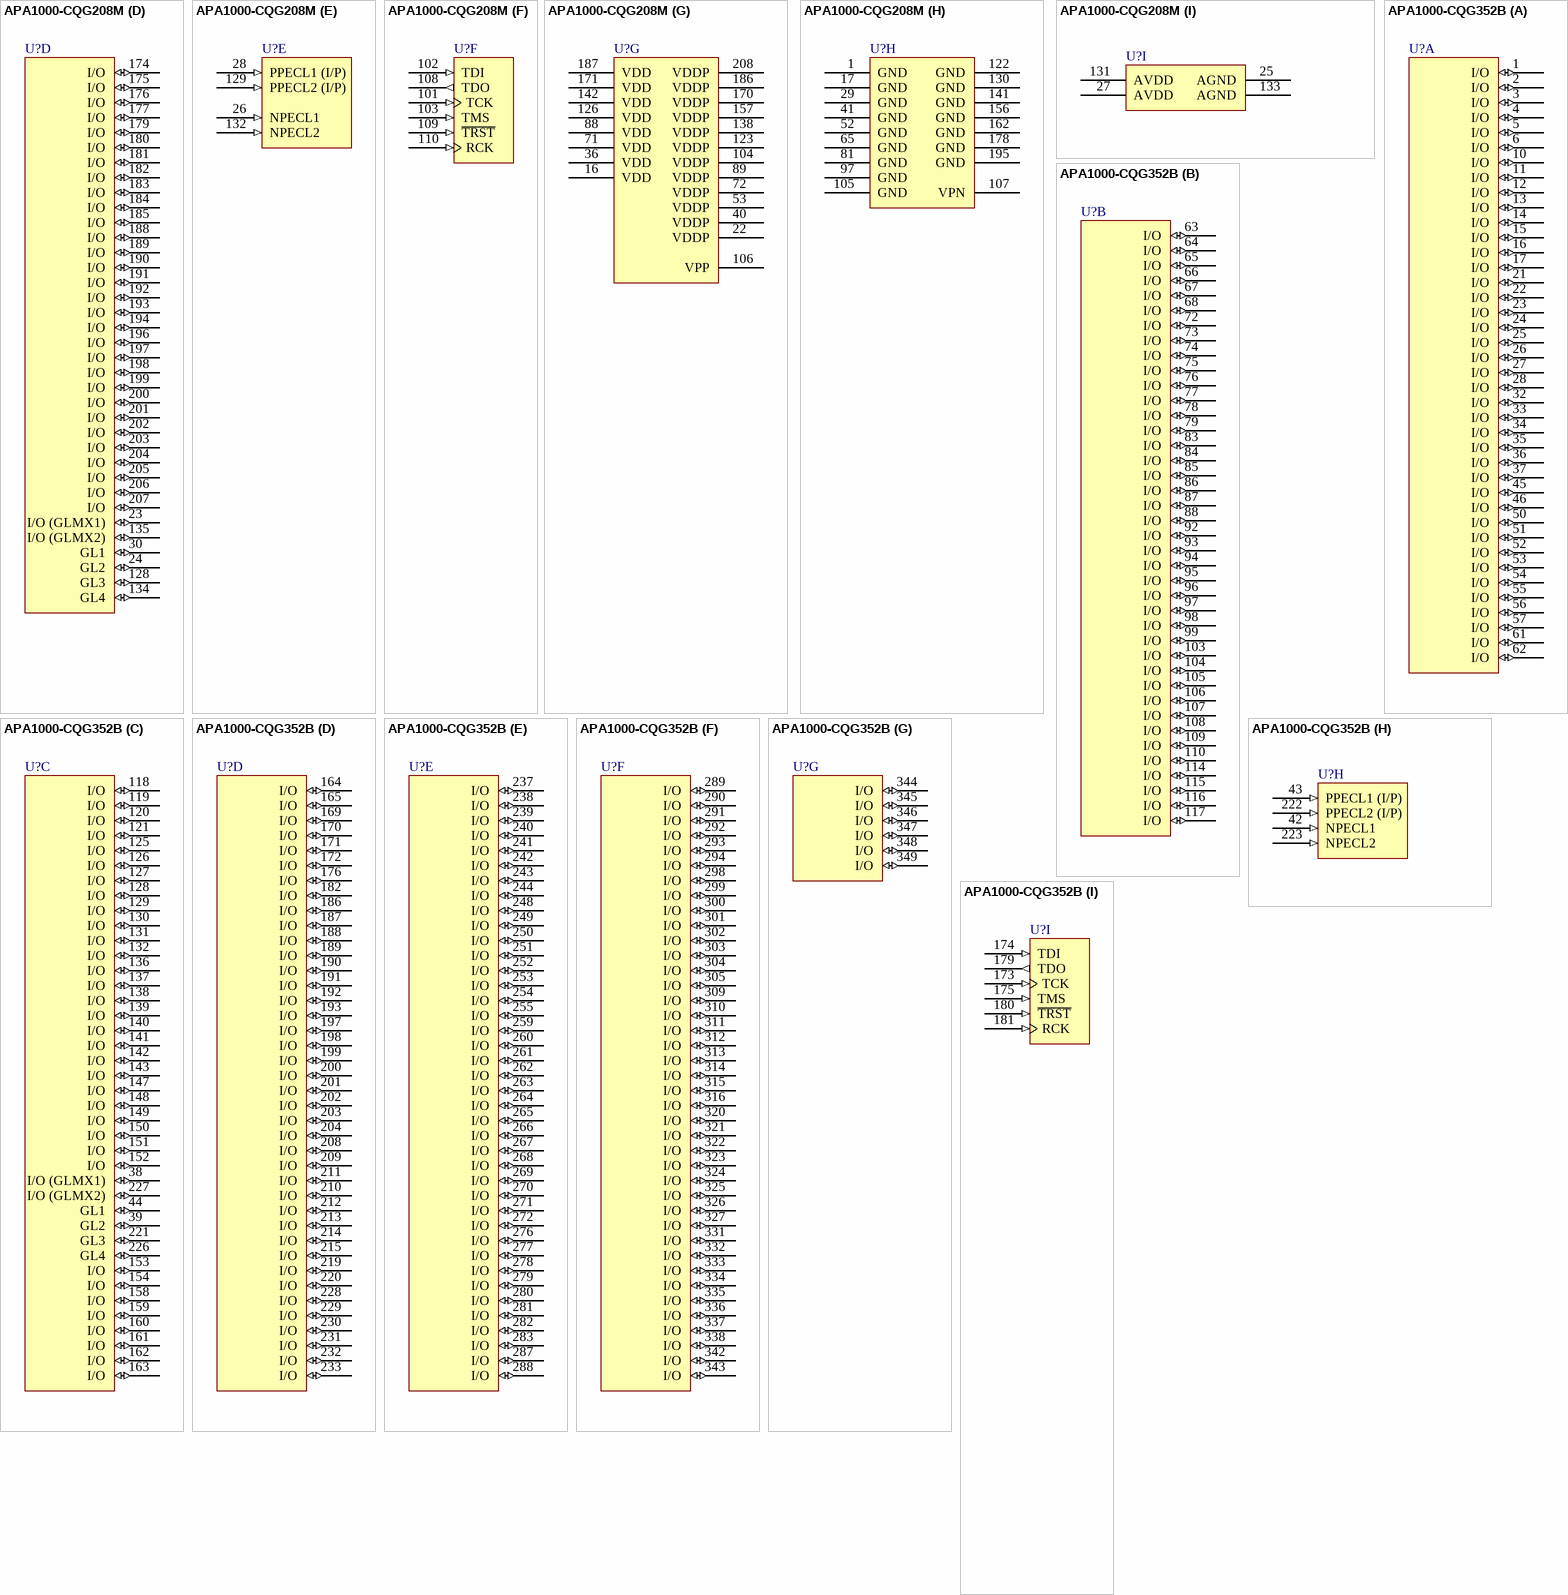
[diagram p162: symbols APA1000-CQG208M to APA1000-CQG352B]

## APA1000-CQG208M
designator U?
ProASICPlus APA1000 Flash FPGA, 158 User IOs, 208-Pin CQFP, Speed Grade Standard, Military Grade, Pb-Free; Published: 16-Dec-2005; LatestRevisionDate: 26-Feb-2010; LatestRevisionNote: Updated to datasheet version 5.9 Jan-2010.; DatasheetVersion: v5.9, Jan-2010; PackageVersion: ver11.2, Nov-2009; PackageReference: CQ208; Publisher: Altium Limited; PackageDescription: 208-Pin Ceramic Quad Flat Pack (CQFP); ComponentLink1Description: ProASIC PLUS Datasheet; ComponentLink1URL: http://www.actel.com/documents/ProASICPLUS_DS.pdf; ComponentLink2Description: Package Mechanical Drawings; ComponentLink2URL: http://www.actel.com/documents/PckgMechDrwngs.pdf; ComponentLink3Description: ProASIC PLUS Documents; ComponentLink3URL: http://www.actel.com/products/proasicplus/docs.aspx; ComponentLink4Description: Actel.com Home; ComponentLink4URL: http://www.actel.com/
footprint CQ208_N (CQFP, 208-Leads, Body 29x29mm; Pitch 0.5mm, Gullwing Leadform, IPC Medium Density)
footprint CQ208_L (CQFP, 208-Leads, Body 29x29mm; Pitch 0.5mm, Gullwing Leadform, IPC High Density)
footprint CQ208_M (CQFP, 208-Leads, Body 29x29mm; Pitch 0.5mm, Gullwing Leadform, IPC Low Density)
part A pins: 2 I/O (io), 3 I/O (io), 4 I/O (io), 5 I/O (io), 6 I/O (io), 7 I/O (io), 8 I/O (io), 9 I/O (io), 10 I/O (io), 11 I/O (io), 12 I/O (io), 13 I/O (io), 14 I/O (io), 15 I/O (io), 18 I/O (io), 19 I/O (io), 20 I/O (io), 21 I/O (io), 31 I/O (io), 32 I/O (io), 33 I/O (io), 34 I/O (io), 35 I/O (io), 37 I/O (io), 38 I/O (io), 39 I/O (io), 42 I/O (io), 43 I/O (io), 44 I/O (io), 45 I/O (io), 46 I/O (io), 47 I/O (io), 48 I/O (io), 49 I/O (io), 50 I/O (io), 51 I/O (io), 54 I/O (io), 55 I/O (io), 56 I/O (io), 57 I/O (io)
part B pins: 58 I/O (io), 59 I/O (io), 60 I/O (io), 61 I/O (io), 62 I/O (io), 63 I/O (io), 64 I/O (io), 66 I/O (io), 67 I/O (io), 68 I/O (io), 69 I/O (io), 70 I/O (io), 73 I/O (io), 74 I/O (io), 75 I/O (io), 76 I/O (io), 77 I/O (io), 78 I/O (io), 79 I/O (io), 80 I/O (io), 82 I/O (io), 83 I/O (io), 84 I/O (io), 85 I/O (io), 86 I/O (io), 87 I/O (io), 90 I/O (io), 91 I/O (io), 92 I/O (io), 93 I/O (io), 94 I/O (io), 95 I/O (io), 96 I/O (io), 98 I/O (io), 99 I/O (io), 100 I/O (io), 111 I/O (io), 112 I/O (io), 113 I/O (io), 114 I/O (io)
part C pins: 115 I/O (io), 116 I/O (io), 117 I/O (io), 118 I/O (io), 119 I/O (io), 120 I/O (io), 121 I/O (io), 124 I/O (io), 125 I/O (io), 127 I/O (io), 136 I/O (io), 137 I/O (io), 139 I/O (io), 140 I/O (io), 143 I/O (io), 144 I/O (io), 145 I/O (io), 146 I/O (io), 147 I/O (io), 148 I/O (io), 149 I/O (io), 150 I/O (io), 151 I/O (io), 152 I/O (io), 153 I/O (io), 154 I/O (io), 155 I/O (io), 158 I/O (io), 159 I/O (io), 160 I/O (io), 161 I/O (io), 163 I/O (io), 164 I/O (io), 165 I/O (io), 166 I/O (io), 167 I/O (io), 168 I/O (io), 169 I/O (io), 172 I/O (io), 173 I/O (io)
part D pins: 23 I/O (GLMX1) (io), 24 GL2 (io), 30 GL1 (io), 128 GL3 (io), 134 GL4 (io), 135 I/O (GLMX2) (io), 174 I/O (io), 175 I/O (io), 176 I/O (io), 177 I/O (io), 179 I/O (io), 180 I/O (io), 181 I/O (io), 182 I/O (io), 183 I/O (io), 184 I/O (io), 185 I/O (io), 188 I/O (io), 189 I/O (io), 190 I/O (io), 191 I/O (io), 192 I/O (io), 193 I/O (io), 194 I/O (io), 196 I/O (io), 197 I/O (io), 198 I/O (io), 199 I/O (io), 200 I/O (io), 201 I/O (io), 202 I/O (io), 203 I/O (io), 204 I/O (io), 205 I/O (io), 206 I/O (io), 207 I/O (io)
part E pins: 26 NPECL1 (in), 28 PPECL1 (I/P) (in), 129 PPECL2 (I/P) (in), 132 NPECL2 (in)
part F pins: 101 TCK (in), 102 TDI (in), 103 TMS (in), 108 TDO (out), 109 ~{TRST} (in), 110 RCK (in)
part G pins: 16 VDD (power), 22 VDDP (power), 36 VDD (power), 40 VDDP (power), 53 VDDP (power), 71 VDD (power), 72 VDDP (power), 88 VDD (power), 89 VDDP (power), 104 VDDP (power), 106 VPP (power), 123 VDDP (power), 126 VDD (power), 138 VDDP (power), 142 VDD (power), 157 VDDP (power), 170 VDDP (power), 171 VDD (power), 186 VDDP (power), 187 VDD (power), 208 VDDP (power)
part H pins: 1 GND (power), 17 GND (power), 29 GND (power), 41 GND (power), 52 GND (power), 65 GND (power), 81 GND (power), 97 GND (power), 105 GND (power), 107 VPN (power), 122 GND (power), 130 GND (power), 141 GND (power), 156 GND (power), 162 GND (power), 178 GND (power), 195 GND (power)
part I pins: 25 AGND (power), 27 AVDD (power), 131 AVDD (power), 133 AGND (power)

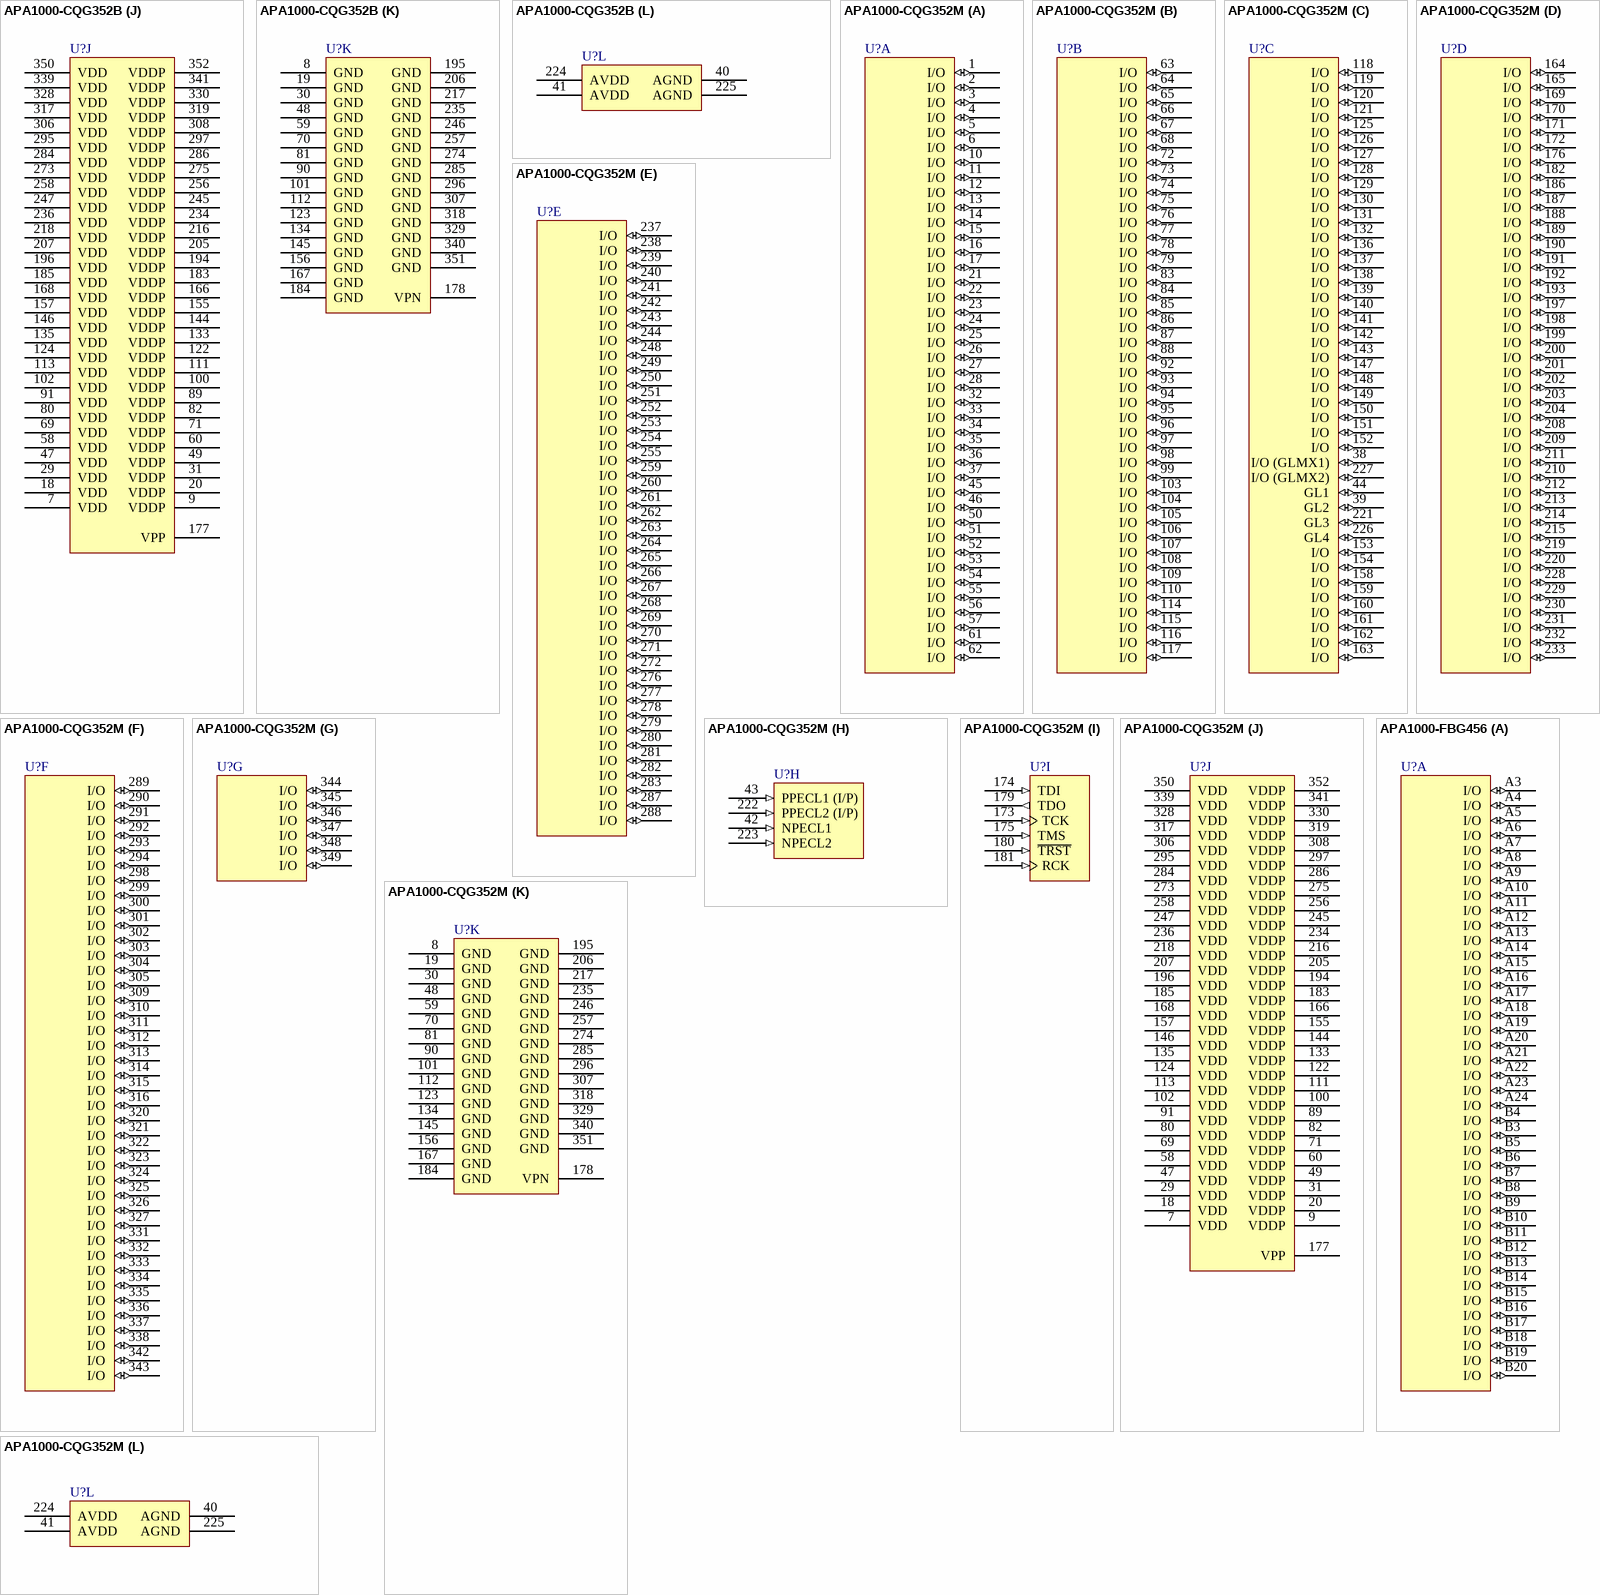
[diagram p163: symbols APA1000-CQG352B to APA1000-FBG456]

## APA1000-CQG352B
designator U?
ProASICPlus APA1000 Flash FPGA, 248 User IOs, 352-Pin CQFP, Speed Grade Standard, Mil-Std 883 Class B, Pb-Free; Published: 2-Mar-2006; LatestRevisionDate: 26-Feb-2010; LatestRevisionNote: Updated to datasheet version 5.9 Jan-2010.; DatasheetVersion: v5.9, Jan-2010; PackageVersion: ver11.2, Nov-2009; PackageReference: CQ352; Publisher: Altium Limited; PackageDescription: 352-Pin Ceramic Quad Flat Pack (CQFP), Cavity Up without Heat Sink; Code_JEDEC: MO-134-AE; ComponentLink1Description: ProASIC PLUS Datasheet; ComponentLink1URL: http://www.actel.com/documents/ProASICPLUS_DS.pdf; ComponentLink2Description: Package Mechanical Drawings; ComponentLink2URL: http://www.actel.com/documents/PckgMechDrwngs.pdf; ComponentLink3Description: ProASIC PLUS Documents; ComponentLink3URL: http://www.actel.com/products/proasicplus/docs.aspx; ComponentLink4Description: Actel.com Home; ComponentLink4URL: http://www.actel.com/
footprint CQ352_N (CQFP, 352-Leads, Body 48x48mm; Pitch 0.5mm, Gullwing Leadform, IPC Medium Density)
footprint CQ352_L (CQFP, 352-Leads, Body 48x48mm; Pitch 0.5mm, Gullwing Leadform, IPC High Density)
footprint CQ352_M (CQFP, 352-Leads, Body 48x48mm; Pitch 0.5mm, Gullwing Leadform, IPC Low Density)
part A pins: 1 I/O (io), 2 I/O (io), 3 I/O (io), 4 I/O (io), 5 I/O (io), 6 I/O (io), 10 I/O (io), 11 I/O (io), 12 I/O (io), 13 I/O (io), 14 I/O (io), 15 I/O (io), 16 I/O (io), 17 I/O (io), 21 I/O (io), 22 I/O (io), 23 I/O (io), 24 I/O (io), 25 I/O (io), 26 I/O (io), 27 I/O (io), 28 I/O (io), 32 I/O (io), 33 I/O (io), 34 I/O (io), 35 I/O (io), 36 I/O (io), 37 I/O (io), 45 I/O (io), 46 I/O (io), 50 I/O (io), 51 I/O (io), 52 I/O (io), 53 I/O (io), 54 I/O (io), 55 I/O (io), 56 I/O (io), 57 I/O (io), 61 I/O (io), 62 I/O (io)
part B pins: 63 I/O (io), 64 I/O (io), 65 I/O (io), 66 I/O (io), 67 I/O (io), 68 I/O (io), 72 I/O (io), 73 I/O (io), 74 I/O (io), 75 I/O (io), 76 I/O (io), 77 I/O (io), 78 I/O (io), 79 I/O (io), 83 I/O (io), 84 I/O (io), 85 I/O (io), 86 I/O (io), 87 I/O (io), 88 I/O (io), 92 I/O (io), 93 I/O (io), 94 I/O (io), 95 I/O (io), 96 I/O (io), 97 I/O (io), 98 I/O (io), 99 I/O (io), 103 I/O (io), 104 I/O (io), 105 I/O (io), 106 I/O (io), 107 I/O (io), 108 I/O (io), 109 I/O (io), 110 I/O (io), 114 I/O (io), 115 I/O (io), 116 I/O (io), 117 I/O (io)
part C pins: 38 I/O (GLMX1) (io), 39 GL2 (io), 44 GL1 (io), 118 I/O (io), 119 I/O (io), 120 I/O (io), 121 I/O (io), 125 I/O (io), 126 I/O (io), 127 I/O (io), 128 I/O (io), 129 I/O (io), 130 I/O (io), 131 I/O (io), 132 I/O (io), 136 I/O (io), 137 I/O (io), 138 I/O (io), 139 I/O (io), 140 I/O (io), 141 I/O (io), 142 I/O (io), 143 I/O (io), 147 I/O (io), 148 I/O (io), 149 I/O (io), 150 I/O (io), 151 I/O (io), 152 I/O (io), 153 I/O (io), 154 I/O (io), 158 I/O (io), 159 I/O (io), 160 I/O (io), 161 I/O (io), 162 I/O (io), 163 I/O (io), 221 GL3 (io), 226 GL4 (io), 227 I/O (GLMX2) (io)
part D pins: 164 I/O (io), 165 I/O (io), 169 I/O (io), 170 I/O (io), 171 I/O (io), 172 I/O (io), 176 I/O (io), 182 I/O (io), 186 I/O (io), 187 I/O (io), 188 I/O (io), 189 I/O (io), 190 I/O (io), 191 I/O (io), 192 I/O (io), 193 I/O (io), 197 I/O (io), 198 I/O (io), 199 I/O (io), 200 I/O (io), 201 I/O (io), 202 I/O (io), 203 I/O (io), 204 I/O (io), 208 I/O (io), 209 I/O (io), 210 I/O (io), 211 I/O (io), 212 I/O (io), 213 I/O (io), 214 I/O (io), 215 I/O (io), 219 I/O (io), 220 I/O (io), 228 I/O (io), 229 I/O (io), 230 I/O (io), 231 I/O (io), 232 I/O (io), 233 I/O (io)
part E pins: 237 I/O (io), 238 I/O (io), 239 I/O (io), 240 I/O (io), 241 I/O (io), 242 I/O (io), 243 I/O (io), 244 I/O (io), 248 I/O (io), 249 I/O (io), 250 I/O (io), 251 I/O (io), 252 I/O (io), 253 I/O (io), 254 I/O (io), 255 I/O (io), 259 I/O (io), 260 I/O (io), 261 I/O (io), 262 I/O (io), 263 I/O (io), 264 I/O (io), 265 I/O (io), 266 I/O (io), 267 I/O (io), 268 I/O (io), 269 I/O (io), 270 I/O (io), 271 I/O (io), 272 I/O (io), 276 I/O (io), 277 I/O (io), 278 I/O (io), 279 I/O (io), 280 I/O (io), 281 I/O (io), 282 I/O (io), 283 I/O (io), 287 I/O (io), 288 I/O (io)
part F pins: 289 I/O (io), 290 I/O (io), 291 I/O (io), 292 I/O (io), 293 I/O (io), 294 I/O (io), 298 I/O (io), 299 I/O (io), 300 I/O (io), 301 I/O (io), 302 I/O (io), 303 I/O (io), 304 I/O (io), 305 I/O (io), 309 I/O (io), 310 I/O (io), 311 I/O (io), 312 I/O (io), 313 I/O (io), 314 I/O (io), 315 I/O (io), 316 I/O (io), 320 I/O (io), 321 I/O (io), 322 I/O (io), 323 I/O (io), 324 I/O (io), 325 I/O (io), 326 I/O (io), 327 I/O (io), 331 I/O (io), 332 I/O (io), 333 I/O (io), 334 I/O (io), 335 I/O (io), 336 I/O (io), 337 I/O (io), 338 I/O (io), 342 I/O (io), 343 I/O (io)
part G pins: 344 I/O (io), 345 I/O (io), 346 I/O (io), 347 I/O (io), 348 I/O (io), 349 I/O (io)
part H pins: 42 NPECL1 (in), 43 PPECL1 (I/P) (in), 222 PPECL2 (I/P) (in), 223 NPECL2 (in)
part I pins: 173 TCK (in), 174 TDI (in), 175 TMS (in), 179 TDO (out), 180 ~{TRST} (in), 181 RCK (in)
part J pins: 7 VDD (power), 9 VDDP (power), 18 VDD (power), 20 VDDP (power), 29 VDD (power), 31 VDDP (power), 47 VDD (power), 49 VDDP (power), 58 VDD (power), 60 VDDP (power), 69 VDD (power), 71 VDDP (power), 80 VDD (power), 82 VDDP (power), 89 VDDP (power), 91 VDD (power), 100 VDDP (power), 102 VDD (power), 111 VDDP (power), 113 VDD (power), 122 VDDP (power), 124 VDD (power), 133 VDDP (power), 135 VDD (power), 144 VDDP (power), 146 VDD (power), 155 VDDP (power), 157 VDD (power), 166 VDDP (power), 168 VDD (power), 177 VPP (power), 183 VDDP (power), 185 VDD (power), 194 VDDP (power), 196 VDD (power), 205 VDDP (power), 207 VDD (power), 216 VDDP (power), 218 VDD (power), 234 VDDP (power), 236 VDD (power), 245 VDDP (power), 247 VDD (power), 256 VDDP (power), 258 VDD (power), 273 VDD (power), 275 VDDP (power), 284 VDD (power), 286 VDDP (power), 295 VDD (power), 297 VDDP (power), 306 VDD (power), 308 VDDP (power), 317 VDD (power), 319 VDDP (power), 328 VDD (power), 330 VDDP (power), 339 VDD (power), 341 VDDP (power), 350 VDD (power), 352 VDDP (power)
part K pins: 8 GND (power), 19 GND (power), 30 GND (power), 48 GND (power), 59 GND (power), 70 GND (power), 81 GND (power), 90 GND (power), 101 GND (power), 112 GND (power), 123 GND (power), 134 GND (power), 145 GND (power), 156 GND (power), 167 GND (power), 178 VPN (power), 184 GND (power), 195 GND (power), 206 GND (power), 217 GND (power), 235 GND (power), 246 GND (power), 257 GND (power), 274 GND (power), 285 GND (power), 296 GND (power), 307 GND (power), 318 GND (power), 329 GND (power), 340 GND (power), 351 GND (power)
part L pins: 40 AGND (power), 41 AVDD (power), 224 AVDD (power), 225 AGND (power)

## APA1000-CQG352M
designator U?
ProASICPlus APA1000 Flash FPGA, 248 User IOs, 352-Pin CQFP, Speed Grade Standard, Military Grade, Pb-Free; Published: 16-Dec-2005; LatestRevisionDate: 26-Feb-2010; LatestRevisionNote: Updated to datasheet version 5.9 Jan-2010.; DatasheetVersion: v5.9, Jan-2010; PackageVersion: ver11.2, Nov-2009; PackageReference: CQ352; Publisher: Altium Limited; PackageDescription: 352-Pin Ceramic Quad Flat Pack (CQFP), Cavity Up without Heat Sink; Code_JEDEC: MO-134-AE; ComponentLink1Description: ProASIC PLUS Datasheet; ComponentLink1URL: http://www.actel.com/documents/ProASICPLUS_DS.pdf; ComponentLink2Description: Package Mechanical Drawings; ComponentLink2URL: http://www.actel.com/documents/PckgMechDrwngs.pdf; ComponentLink3Description: ProASIC PLUS Documents; ComponentLink3URL: http://www.actel.com/products/proasicplus/docs.aspx; ComponentLink4Description: Actel.com Home; ComponentLink4URL: http://www.actel.com/
footprint CQ352_N (CQFP, 352-Leads, Body 48x48mm; Pitch 0.5mm, Gullwing Leadform, IPC Medium Density)
footprint CQ352_L (CQFP, 352-Leads, Body 48x48mm; Pitch 0.5mm, Gullwing Leadform, IPC High Density)
footprint CQ352_M (CQFP, 352-Leads, Body 48x48mm; Pitch 0.5mm, Gullwing Leadform, IPC Low Density)
part A pins: 1 I/O (io), 2 I/O (io), 3 I/O (io), 4 I/O (io), 5 I/O (io), 6 I/O (io), 10 I/O (io), 11 I/O (io), 12 I/O (io), 13 I/O (io), 14 I/O (io), 15 I/O (io), 16 I/O (io), 17 I/O (io), 21 I/O (io), 22 I/O (io), 23 I/O (io), 24 I/O (io), 25 I/O (io), 26 I/O (io), 27 I/O (io), 28 I/O (io), 32 I/O (io), 33 I/O (io), 34 I/O (io), 35 I/O (io), 36 I/O (io), 37 I/O (io), 45 I/O (io), 46 I/O (io), 50 I/O (io), 51 I/O (io), 52 I/O (io), 53 I/O (io), 54 I/O (io), 55 I/O (io), 56 I/O (io), 57 I/O (io), 61 I/O (io), 62 I/O (io)
part B pins: 63 I/O (io), 64 I/O (io), 65 I/O (io), 66 I/O (io), 67 I/O (io), 68 I/O (io), 72 I/O (io), 73 I/O (io), 74 I/O (io), 75 I/O (io), 76 I/O (io), 77 I/O (io), 78 I/O (io), 79 I/O (io), 83 I/O (io), 84 I/O (io), 85 I/O (io), 86 I/O (io), 87 I/O (io), 88 I/O (io), 92 I/O (io), 93 I/O (io), 94 I/O (io), 95 I/O (io), 96 I/O (io), 97 I/O (io), 98 I/O (io), 99 I/O (io), 103 I/O (io), 104 I/O (io), 105 I/O (io), 106 I/O (io), 107 I/O (io), 108 I/O (io), 109 I/O (io), 110 I/O (io), 114 I/O (io), 115 I/O (io), 116 I/O (io), 117 I/O (io)
part C pins: 38 I/O (GLMX1) (io), 39 GL2 (io), 44 GL1 (io), 118 I/O (io), 119 I/O (io), 120 I/O (io), 121 I/O (io), 125 I/O (io), 126 I/O (io), 127 I/O (io), 128 I/O (io), 129 I/O (io), 130 I/O (io), 131 I/O (io), 132 I/O (io), 136 I/O (io), 137 I/O (io), 138 I/O (io), 139 I/O (io), 140 I/O (io), 141 I/O (io), 142 I/O (io), 143 I/O (io), 147 I/O (io), 148 I/O (io), 149 I/O (io), 150 I/O (io), 151 I/O (io), 152 I/O (io), 153 I/O (io), 154 I/O (io), 158 I/O (io), 159 I/O (io), 160 I/O (io), 161 I/O (io), 162 I/O (io), 163 I/O (io), 221 GL3 (io), 226 GL4 (io), 227 I/O (GLMX2) (io)
part D pins: 164 I/O (io), 165 I/O (io), 169 I/O (io), 170 I/O (io), 171 I/O (io), 172 I/O (io), 176 I/O (io), 182 I/O (io), 186 I/O (io), 187 I/O (io), 188 I/O (io), 189 I/O (io), 190 I/O (io), 191 I/O (io), 192 I/O (io), 193 I/O (io), 197 I/O (io), 198 I/O (io), 199 I/O (io), 200 I/O (io), 201 I/O (io), 202 I/O (io), 203 I/O (io), 204 I/O (io), 208 I/O (io), 209 I/O (io), 210 I/O (io), 211 I/O (io), 212 I/O (io), 213 I/O (io), 214 I/O (io), 215 I/O (io), 219 I/O (io), 220 I/O (io), 228 I/O (io), 229 I/O (io), 230 I/O (io), 231 I/O (io), 232 I/O (io), 233 I/O (io)
part E pins: 237 I/O (io), 238 I/O (io), 239 I/O (io), 240 I/O (io), 241 I/O (io), 242 I/O (io), 243 I/O (io), 244 I/O (io), 248 I/O (io), 249 I/O (io), 250 I/O (io), 251 I/O (io), 252 I/O (io), 253 I/O (io), 254 I/O (io), 255 I/O (io), 259 I/O (io), 260 I/O (io), 261 I/O (io), 262 I/O (io), 263 I/O (io), 264 I/O (io), 265 I/O (io), 266 I/O (io), 267 I/O (io), 268 I/O (io), 269 I/O (io), 270 I/O (io), 271 I/O (io), 272 I/O (io), 276 I/O (io), 277 I/O (io), 278 I/O (io), 279 I/O (io), 280 I/O (io), 281 I/O (io), 282 I/O (io), 283 I/O (io), 287 I/O (io), 288 I/O (io)
part F pins: 289 I/O (io), 290 I/O (io), 291 I/O (io), 292 I/O (io), 293 I/O (io), 294 I/O (io), 298 I/O (io), 299 I/O (io), 300 I/O (io), 301 I/O (io), 302 I/O (io), 303 I/O (io), 304 I/O (io), 305 I/O (io), 309 I/O (io), 310 I/O (io), 311 I/O (io), 312 I/O (io), 313 I/O (io), 314 I/O (io), 315 I/O (io), 316 I/O (io), 320 I/O (io), 321 I/O (io), 322 I/O (io), 323 I/O (io), 324 I/O (io), 325 I/O (io), 326 I/O (io), 327 I/O (io), 331 I/O (io), 332 I/O (io), 333 I/O (io), 334 I/O (io), 335 I/O (io), 336 I/O (io), 337 I/O (io), 338 I/O (io), 342 I/O (io), 343 I/O (io)
part G pins: 344 I/O (io), 345 I/O (io), 346 I/O (io), 347 I/O (io), 348 I/O (io), 349 I/O (io)
part H pins: 42 NPECL1 (in), 43 PPECL1 (I/P) (in), 222 PPECL2 (I/P) (in), 223 NPECL2 (in)
part I pins: 173 TCK (in), 174 TDI (in), 175 TMS (in), 179 TDO (out), 180 ~{TRST} (in), 181 RCK (in)
part J pins: 7 VDD (power), 9 VDDP (power), 18 VDD (power), 20 VDDP (power), 29 VDD (power), 31 VDDP (power), 47 VDD (power), 49 VDDP (power), 58 VDD (power), 60 VDDP (power), 69 VDD (power), 71 VDDP (power), 80 VDD (power), 82 VDDP (power), 89 VDDP (power), 91 VDD (power), 100 VDDP (power), 102 VDD (power), 111 VDDP (power), 113 VDD (power), 122 VDDP (power), 124 VDD (power), 133 VDDP (power), 135 VDD (power), 144 VDDP (power), 146 VDD (power), 155 VDDP (power), 157 VDD (power), 166 VDDP (power), 168 VDD (power), 177 VPP (power), 183 VDDP (power), 185 VDD (power), 194 VDDP (power), 196 VDD (power), 205 VDDP (power), 207 VDD (power), 216 VDDP (power), 218 VDD (power), 234 VDDP (power), 236 VDD (power), 245 VDDP (power), 247 VDD (power), 256 VDDP (power), 258 VDD (power), 273 VDD (power), 275 VDDP (power), 284 VDD (power), 286 VDDP (power), 295 VDD (power), 297 VDDP (power), 306 VDD (power), 308 VDDP (power), 317 VDD (power), 319 VDDP (power), 328 VDD (power), 330 VDDP (power), 339 VDD (power), 341 VDDP (power), 350 VDD (power), 352 VDDP (power)
part K pins: 8 GND (power), 19 GND (power), 30 GND (power), 48 GND (power), 59 GND (power), 70 GND (power), 81 GND (power), 90 GND (power), 101 GND (power), 112 GND (power), 123 GND (power), 134 GND (power), 145 GND (power), 156 GND (power), 167 GND (power), 178 VPN (power), 184 GND (power), 195 GND (power), 206 GND (power), 217 GND (power), 235 GND (power), 246 GND (power), 257 GND (power), 274 GND (power), 285 GND (power), 296 GND (power), 307 GND (power), 318 GND (power), 329 GND (power), 340 GND (power), 351 GND (power)
part L pins: 40 AGND (power), 41 AVDD (power), 224 AVDD (power), 225 AGND (power)

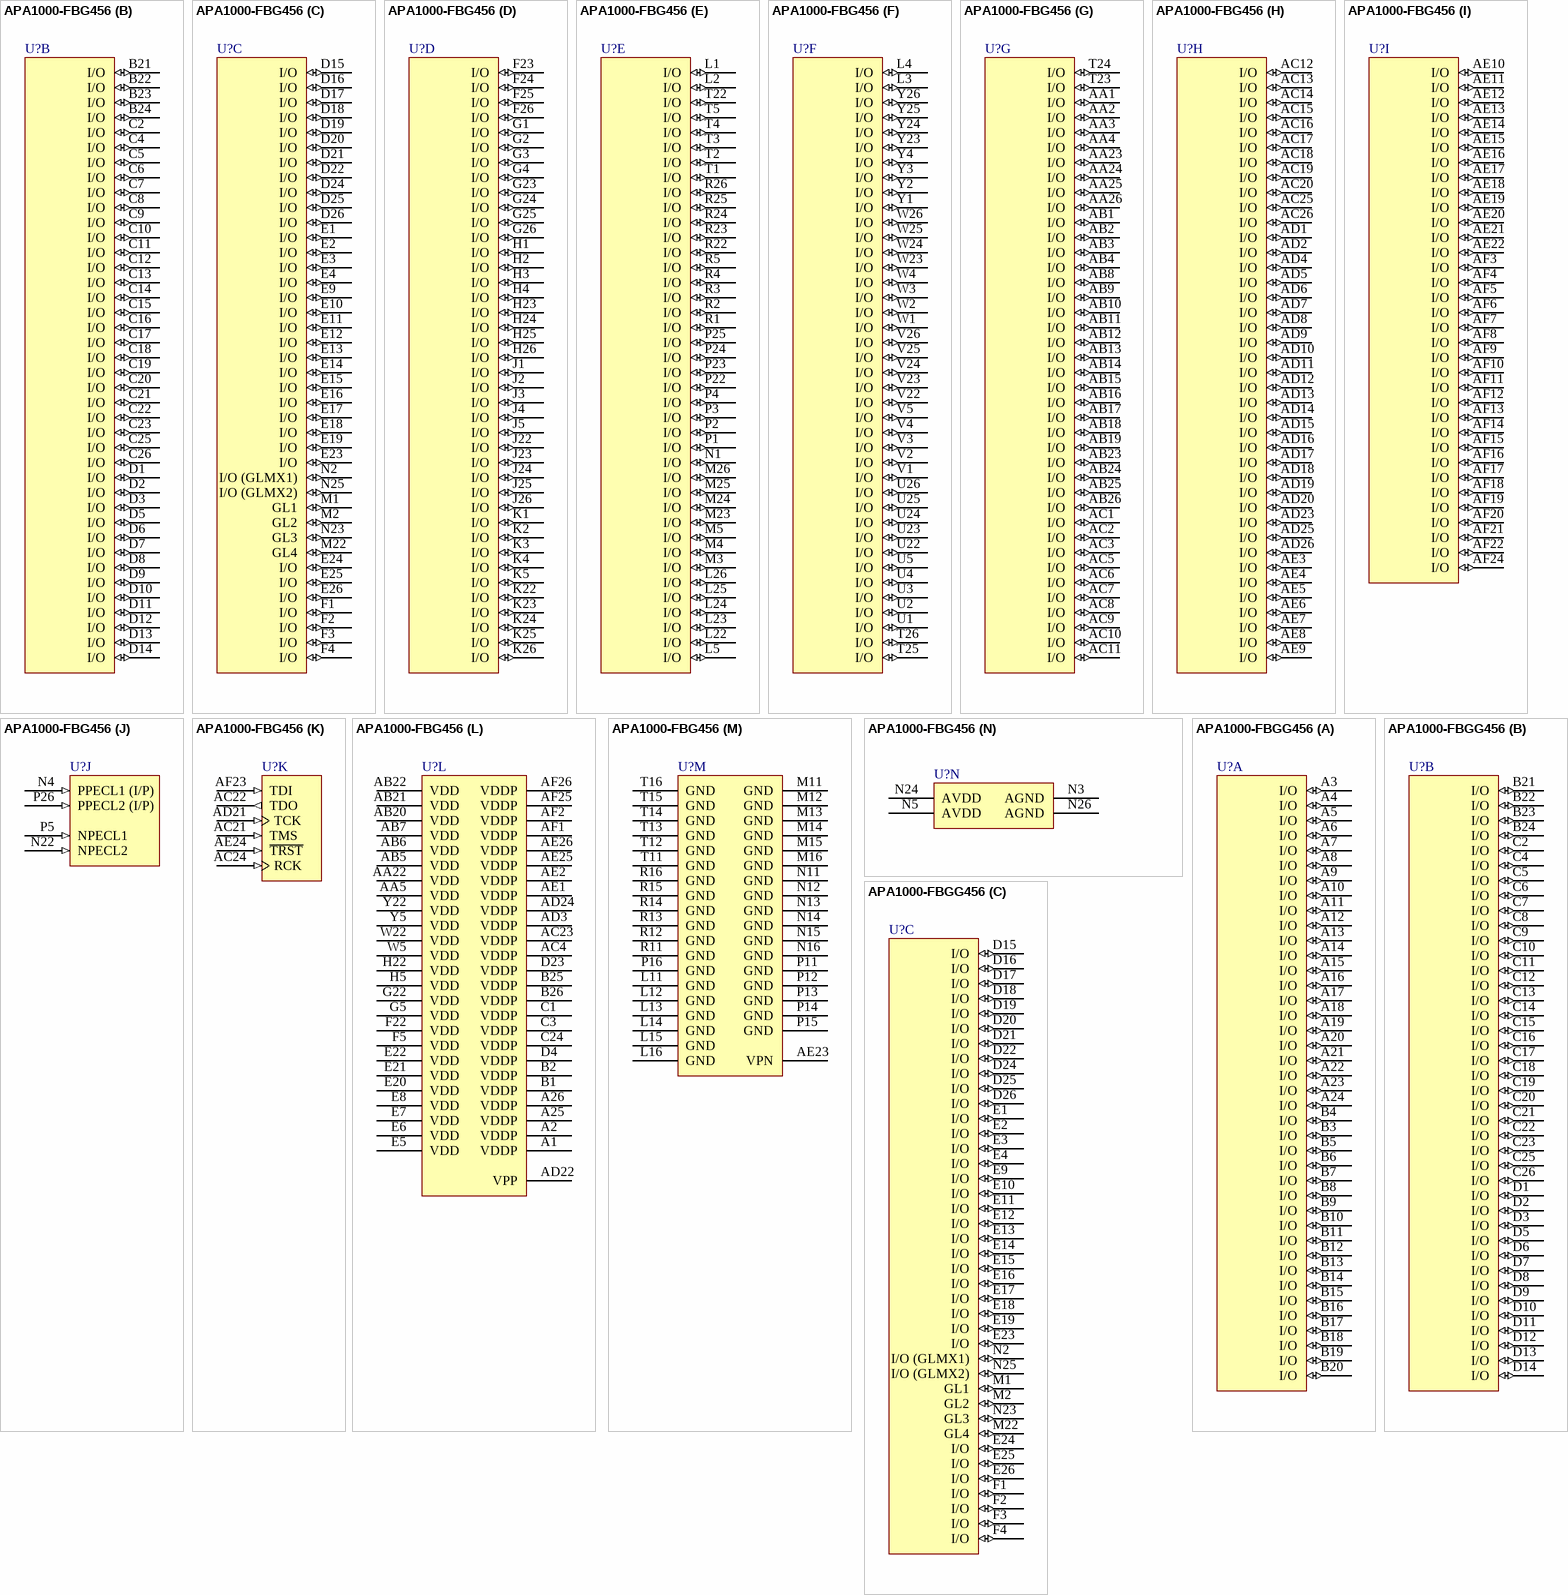
[diagram p164: symbols APA1000-FBG456 to APA1000-FBGG456]